# Altium integrated library Wurth_Elektronik_Passive_rev16a.IntLib: 1143 symbols (part 12 of 28)
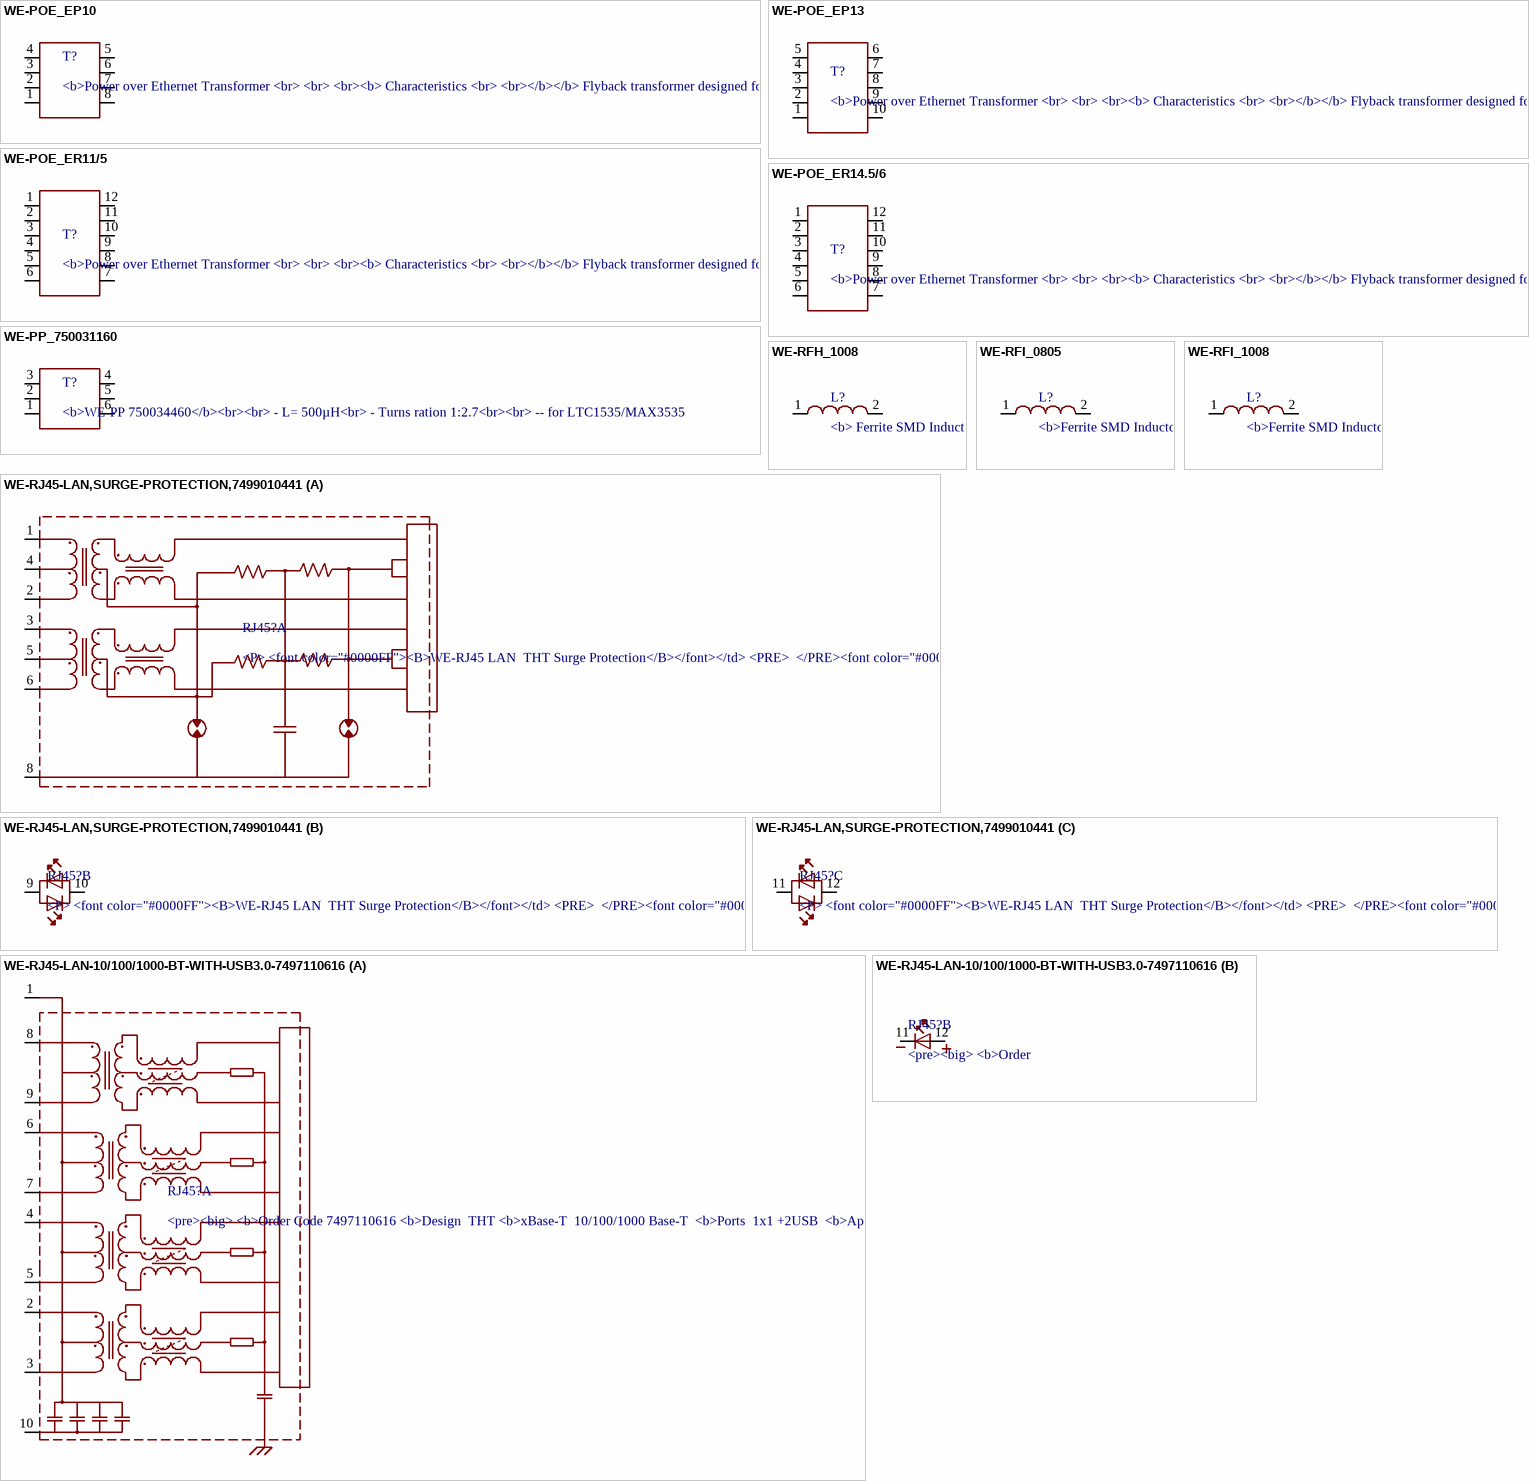
[diagram p69: symbols WE-POE_EP10 to WE-RJ45-LAN-10/100/1000-BT-WITH-USB3.0-7497110616]

## WE-RFH_1008
designator L?, comment <b> Ferrite SMD Inductor / <br> / <br> / <br><b> Characteristics / <br> / <br></b></b> High thermal stability / <br> / <br> Operating temperature: –40 ºC to +85 ºC / <br> / <br> High inductances / <br> / <br> High currents / <br> / <br> / <br><b> Applications / <br> / <br></b> Developed especially for RF applications / <br> / <br> Perfect for telecommunication applications / <br> / <br> / <br> / <br><a href="<br><a href="http://katalog.we-online.de/media/images/eisos/RfRFH_pf2.jpg" title="Enlarge picture"> / <img src="http://katalog.we-online.de/media/images/eisos/RfRFH_pf2.jpg" width="320"></a><p> / Details see: <a href="http://katalog.we-online.de/en/pbs/WE-RFH?">http://katalog.we-online.de/en/pbs/WE-RFH?</a><p> / Updated  by  Dan Xu 2014-07-08<br> / 2014 (C) Wurth Elektronik
footprint WE-RFH
pins: 1, 2

## WE-RFI_0805
designator L?, comment <b>Ferrite SMD Inductor / <br> / <br> / <br><b> Characteristics / <br> / <br></b></b> High thermal stability / <br> / <br> Operating temperature: –40 °C to +85 °C / <br> / <br> / <br><b> Applications / <br> / <br></b> Especially developed for RF applications / <br> / <br> RFID / <br> / <br> Low frequency radio applications (Keyless) / <br> / <br> / <br> / <br><a href="<br><a href="http://katalog.we-online.de/media/images/eisos/RfRFI_pf2.jpg" title="Enlarge picture"> / <img src="http://katalog.we-online.de/media/images/eisos/RfRFH_pf2.jpg" width="320"></a><p> / Details see: <a href="http://katalog.we-online.de/en/pbs/WE-RFI?">http://katalog.we-online.de/en/pbs/WE-RFI?</a><p> / Updated  by  Dan Xu 2014-07-08<br> / 2014 (C) Wurth Elektronik
footprint WE-RFI_0805
pins: 1, 2

## WE-RFI_1008
designator L?, comment <b>Ferrite SMD Inductor / <br> / <br> / <br><b> Characteristics / <br> / <br></b></b> High thermal stability / <br> / <br> Operating temperature: –40 °C to +85 °C / <br> / <br> / <br><b> Applications / <br> / <br></b> Especially developed for RF applications / <br> / <br> RFID / <br> / <br> Low frequency radio applications (Keyless) / <br> / <br> / <br> / <br><a href="<br><a href="http://katalog.we-online.de/media/images/eisos/RfRFI_pf2.jpg" title="Enlarge picture"> / <img src="http://katalog.we-online.de/media/images/eisos/RfRFH_pf2.jpg" width="320"></a><p> / Details see: <a href="http://katalog.we-online.de/en/pbs/WE-RFI?">http://katalog.we-online.de/en/pbs/WE-RFI?</a><p> / Updated  by  Dan Xu 2014-07-08<br> / 2014 (C) Wurth Elektronik
footprint WE-RFI_1008
pins: 1, 2

## WE-RJ45-LAN,SURGE-PROTECTION,7499010441
designator RJ45?, comment <P> <font color="#0000FF"><B>WE-RJ45 LAN / THT Surge Protection</B></font></td> / <PRE> / </PRE><font color="#0000FF"><B>Characteristics:</B></font></td> / <PRE> / With two integrated gas discharge tubes / High surge withstand voltage / Small capacitance of surge device / <PRE> / <font color="#0000FF"><B>Application:</B></font></td> / <PRE> / Telecom devices / Bridges, hubs, router, power line adapter / LAN networks in rough environments / </PRE> / <br><a href="<br><a href="http://katalog.we-online.de/media/images/eisos/UtLAN_RJ45_pf2.jpg" title="Enlarge picture"> / <img src="http://katalog.we-online.de/media/images/eisos/UtLAN_RJ45_pf2.jpg" width="320"></a><p> / Details see: <a href="http://katalog.we-online.de/en/pbs/WE-LAN_RJ45/7499010441?">http://katalog.we-online.de/en/pbs/WE-LAN_RJ45/7499010441?</a><p> / Updated  by  Dan Xu 2014-07-08<br> / 2014 (C) Würth Elektronik
footprint 7499010441
part A pins: 1 TD+, 2 TD-, 3 RD+, 4 CTD, 5 CRD, 6 RD-, 8 SHIELD
part B pins: 9 AK1, 10 AK2
part C pins: 11 AK1, 12 AK2

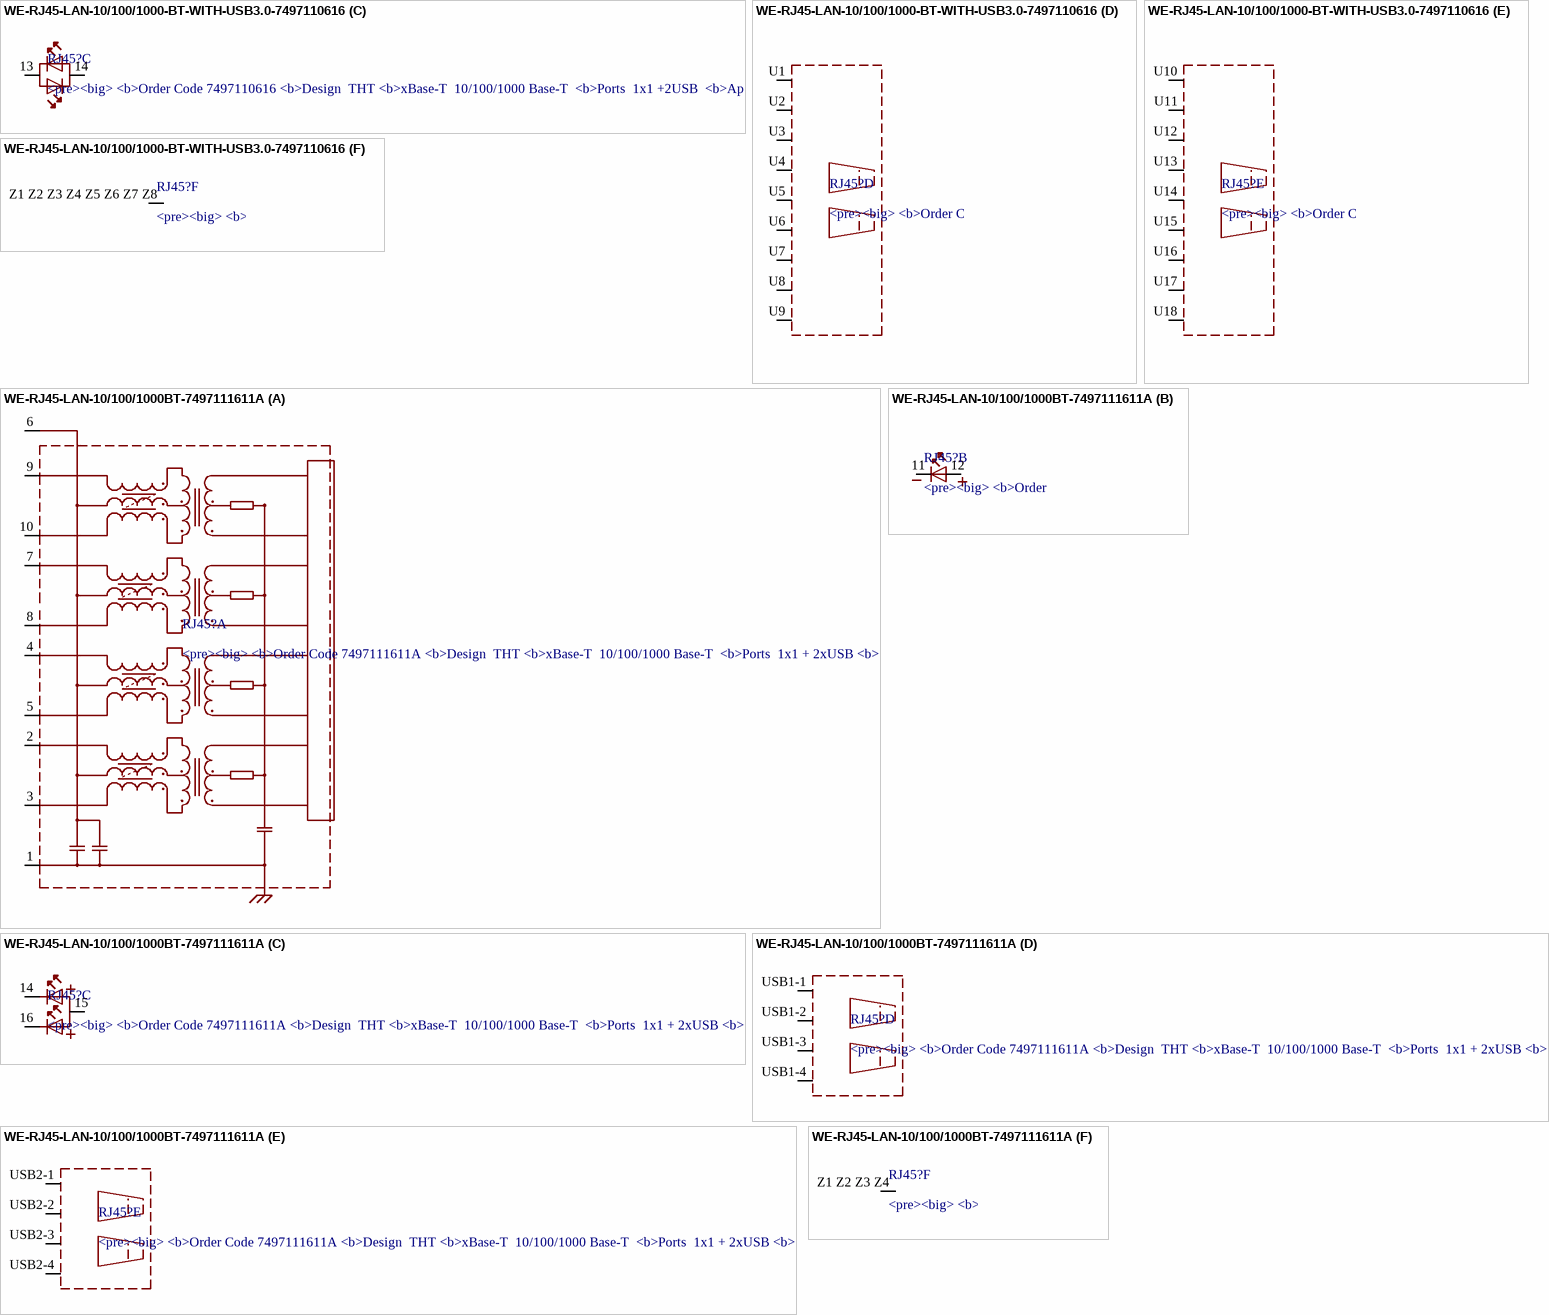
[diagram p27: symbols WE-RJ45-LAN-10/100/1000-BT-WITH-USB3.0-7497110616 to WE-RJ45-LAN-10/100/1000BT-7497111611A]

## WE-RJ45-LAN-10/100/1000-BT-WITH-USB3.0-7497110616
designator RJ45?, comment <pre><big> / <b>Order Code	7497110616 / <b>Design		THT / <b>xBase-T		10/100/1000 Base-T / <b>Ports		1x1 +2USB / <b>Application	Standard USB3.0 / <b>Tab Position	UP / <b>LED (Left-Right)	YELLOW-GREEN/OANGE / <b>EMI Fingers	NO / </b><br><a href="<br><a href="http://katalog.we-online.de/media/images/eisos/UtLAN_RJ45_pf2.jpg" title="Enlarge picture"> / <img src="http://katalog.we-online.de/media/images/eisos/UtLAN_RJ45_pf2.jpg" width="320"></a><p> / Details see: <a href="http://katalog.we-online.de/en/pbs/WE-LAN_RJ45/7497110616?">http://katalog.we-online.de/en/pbs/WE-LAN_RJ45/7497110616?</a><p> / </b> / </b>Updated  by  Dan Xu 2014-07-10<br> / </b>2014 (C) Würth Elektronik
MANUFACTURER: Würth Elektronik eiSos GmbH; CREATED-BY: Christin Zierenner; COMPANY-URL: http://www.we-online.de; CREATED-DATE: AUG 2012; DATASHEET-URL: http://katalog.we-online.de/kataloge/eisos/media/pdf/7497110616.pdf
footprint 7497110616
part A pins: 1, 2, 3, 4, 5, 6, 7, 8, 9, 10 (power)
part B pins: 11 K, 12 A
part C pins: 13 AK1, 14 AK2
part D pins: U1 VCC (power), U2 D-, U3 D+, U4 GND (power), U5 RX-, U6 RX+, U7 GND_SIG (power), U8 TX-, U9 TX+
part E pins: U10 VCC (power), U11 D-, U12 D+, U13 GND (power), U14 RX-, U15 RX+, U16 GND_SIG (power), U17 TX-, U18 TX+
part F pins: Z1 Z2 Z3 Z4 Z5 Z6 Z7 Z8 P$1 (power)

## WE-RJ45-LAN-10/100/1000BT-7497111611A
designator RJ45?, comment <pre><big> / <b>Order Code	7497111611A / <b>Design		THT / <b>xBase-T		10/100/1000 Base-T / <b>Ports		1x1 + 2xUSB / <b>Application	Standard USB2.0 / <b>Tab Position	UP / <b>LED (Left-Right)	GREEN/ORANGE-YELLOW / <b>EMI Fingers	YES</b> / </b><br><a href="<br><a href="http://katalog.we-online.de/media/images/eisos/UtLAN_RJ45_pf2.jpg" title="Enlarge picture"> / <img src="http://katalog.we-online.de/media/images/eisos/UtLAN_RJ45_pf2.jpg" width="320"></a><p> / Details see: <a href="http://katalog.we-online.de/en/pbs/WE-LAN_RJ45/7497111611A?">http://katalog.we-online.de/en/pbs/WE-LAN_RJ45/7497111611A?</a><p> / </b> / </b>Updated  by  Dan Xu 2014-07-10<br> / </b>2014 (C) Würth Elektronik
MANUFACTURER: Würth Elektronik eiSos GmbH; CREATED-BY: Christin Zierenner; COMPANY-URL: http://www.we-online.de; CREATED-DATE: AUG 2012; DATASHEET-URL: http://katalog.we-online.de/kataloge/eisos/media/pdf/7497111611A.pdf
footprint 7497111611A
part A pins: 1 (power), 2, 3, 4, 5, 6, 7, 8, 9, 10
part B pins: 11 K, 12 A
part C pins: 14 K1, 15 A1, 16 K2
part D pins: USB1-1 VCC (power), USB1-2 D-, USB1-3 D+, USB1-4 GND (power)
part E pins: USB2-1 VCC (power), USB2-2 D-, USB2-3 D+, USB2-4 GND (power)
part F pins: Z1 Z2 Z3 Z4 P$1 (power)

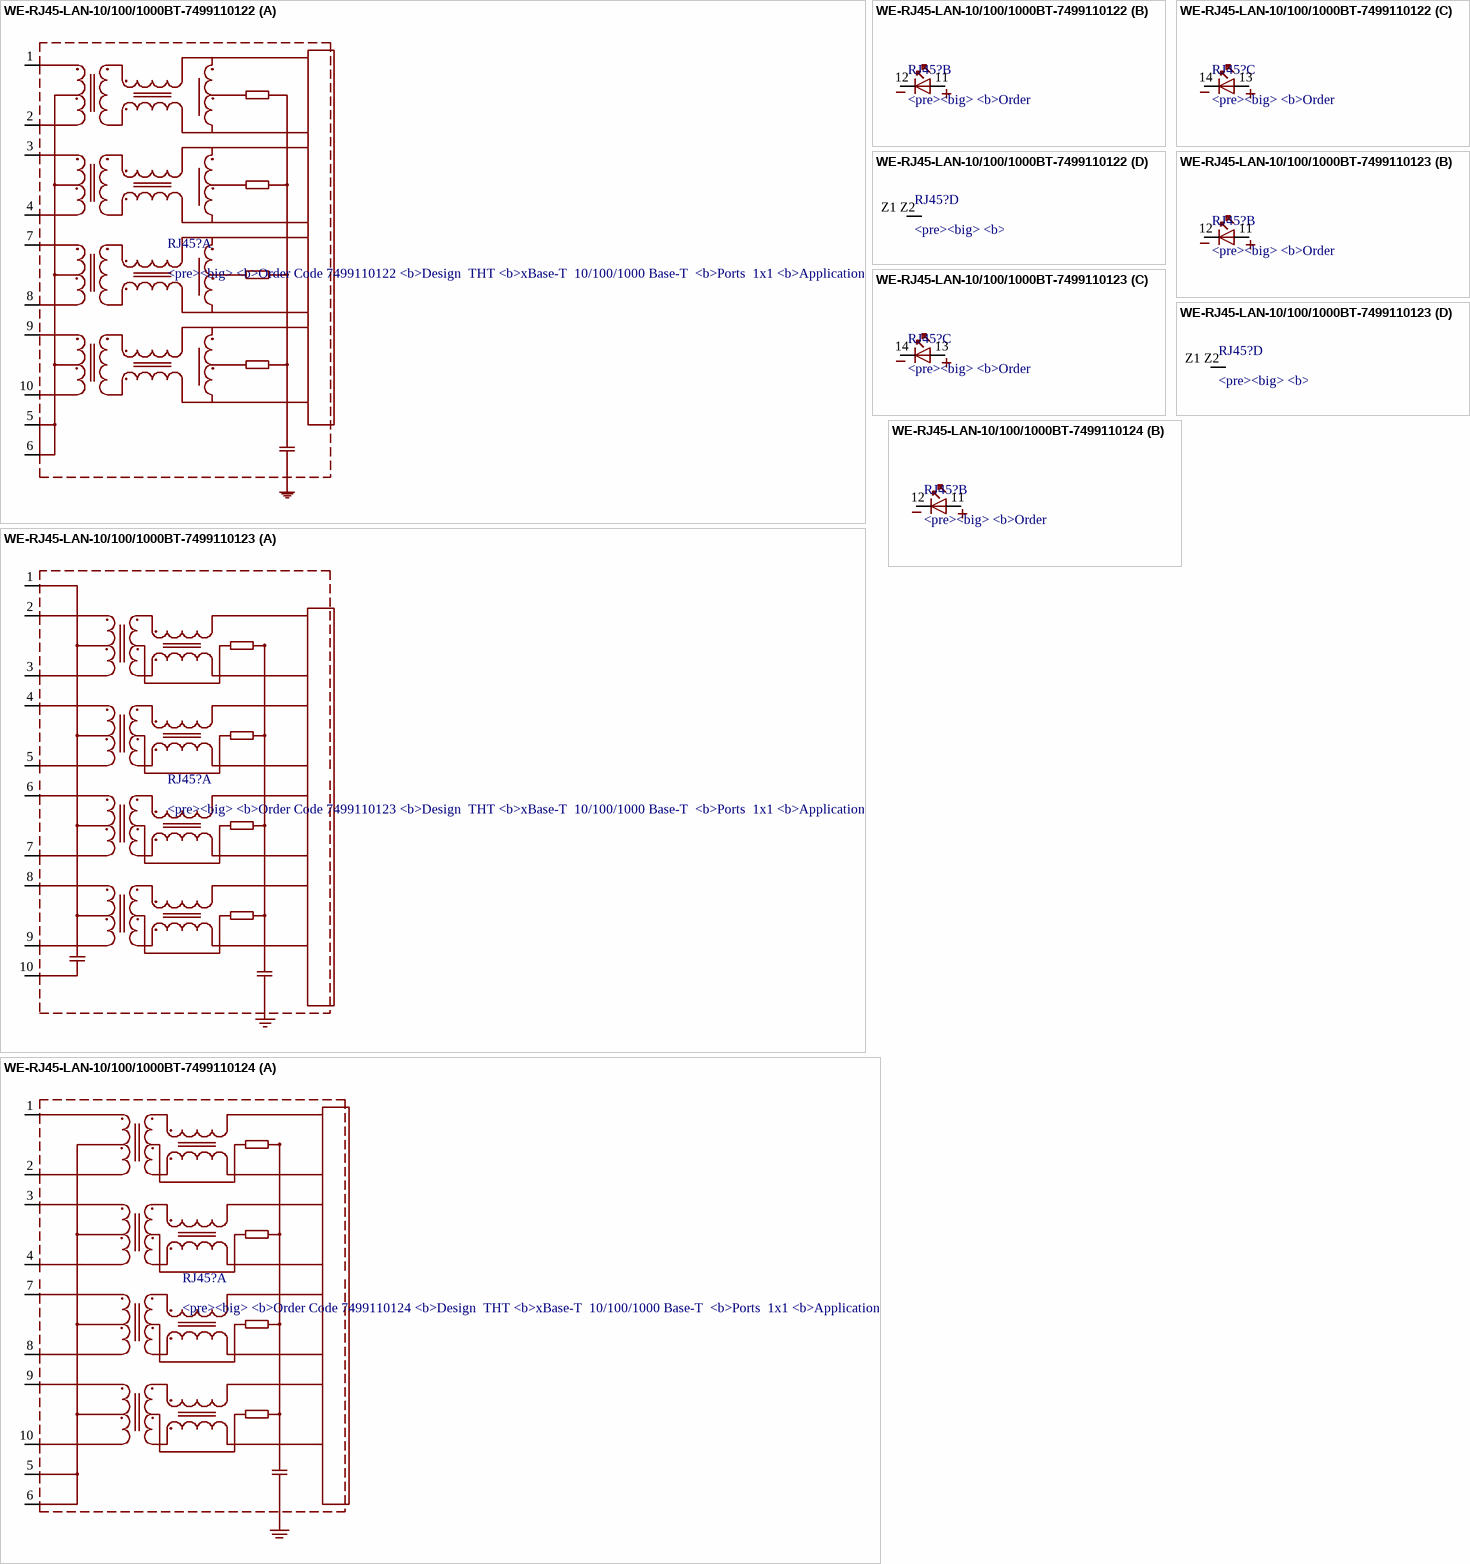
[diagram p28: symbols WE-RJ45-LAN-10/100/1000BT-7499110122 to WE-RJ45-LAN-10/100/1000BT-7499110124]

## WE-RJ45-LAN-10/100/1000BT-7499110122
designator RJ45?, comment <pre><big> / <b>Order Code	7499110122 / <b>Design		THT / <b>xBase-T		10/100/1000 Base-T / <b>Ports		1x1 / <b>Application	Standard / <b>Tab Position	Down / <b>LED (Left-Right)	YELLOW-GREEN / <b>EMI Fingers	No / </b><br><a href="<br><a href="http://katalog.we-online.de/media/images/eisos/UtLAN_RJ45_pf2.jpg" title="Enlarge picture"> / <img src="http://katalog.we-online.de/media/images/eisos/UtLAN_RJ45_pf2.jpg" width="320"></a><p> / Details see: <a href="http://katalog.we-online.de/en/pbs/WE-LAN_RJ45/7499110122?">http://katalog.we-online.de/en/pbs/WE-LAN_RJ45/7499110122?</a><p> / </b> / </b>Updated  by  Dan Xu 2014-07-10<br> / </b>2014 (C) Würth Elektronik
MANUFACTURER: Würth Elektronik eiSos GmbH; CREATED-BY: Christin Zierenner; COMPANY-URL: http://www.we-online.de; CREATED-DATE: AUG 2012; DATASHEET-URL: http://katalog.we-online.de/kataloge/eisos/media/pdf/7499110122.pdf
footprint 7499110122
part A pins: 1, 2, 3, 4, 5, 6, 7, 8, 9, 10
part B pins: 11 A, 12 K
part C pins: 13 A, 14 K
part D pins: Z1 Z2 P$1 (power)

## WE-RJ45-LAN-10/100/1000BT-7499110123
designator RJ45?, comment <pre><big> / <b>Order Code	7499110123 / <b>Design		THT / <b>xBase-T		10/100/1000 Base-T / <b>Ports		1x1 / <b>Application	Standard / <b>Tab Position	VERTICAL / <b>LED (Left-Right)	YELLOW-GREEN / <b>EMI Fingers	No / </b><br><a href="<br><a href="http://katalog.we-online.de/media/images/eisos/UtLAN_RJ45_pf2.jpg" title="Enlarge picture"> / <img src="http://katalog.we-online.de/media/images/eisos/UtLAN_RJ45_pf2.jpg" width="320"></a><p> / Details see: <a href="http://katalog.we-online.de/en/pbs/WE-LAN_RJ45/7499110123?">http://katalog.we-online.de/en/pbs/WE-LAN_RJ45/7499110123?</a><p> / </b> / </b>Updated  by  Dan Xu 2014-07-10<br> / </b>2014 (C) Würth Elektronik
MANUFACTURER: Würth Elektronik eiSos GmbH; CREATED-BY: Christin Zierenner; COMPANY-URL: http://www.we-online.de; CREATED-DATE: AUG 2012; DATASHEET-URL: http://katalog.we-online.de/kataloge/eisos/media/pdf/7499110123.pdf
footprint 7499110123
part A pins: 1, 2, 3, 4, 5, 6, 7, 8, 9, 10
part B pins: 11 A, 12 K
part C pins: 13 A, 14 K
part D pins: Z1 Z2 P$1 (power)

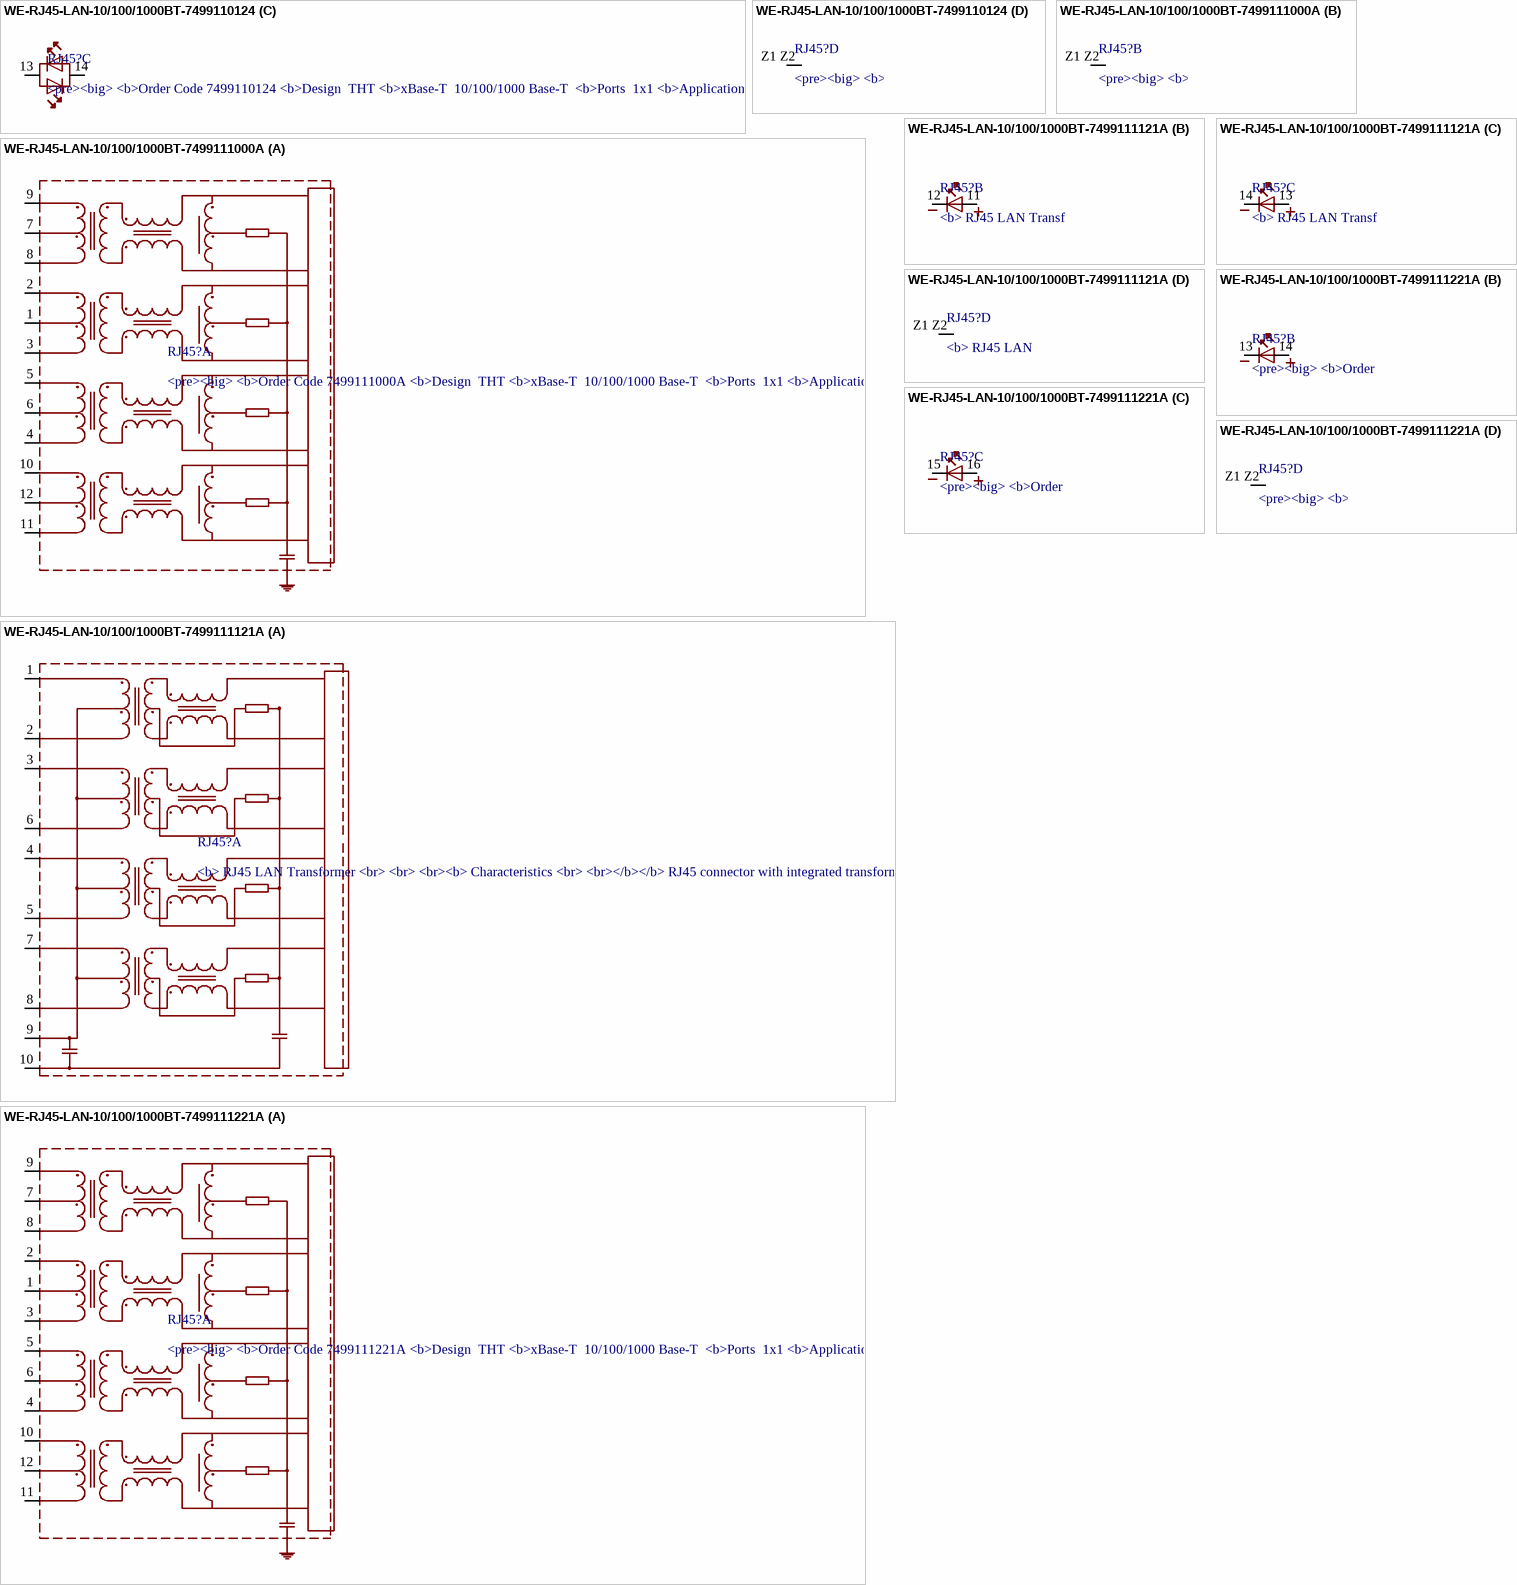
[diagram p29: symbols WE-RJ45-LAN-10/100/1000BT-7499110124 to WE-RJ45-LAN-10/100/1000BT-7499111221A]

## WE-RJ45-LAN-10/100/1000BT-7499110124
designator RJ45?, comment <pre><big> / <b>Order Code	7499110124 / <b>Design		THT / <b>xBase-T		10/100/1000 Base-T / <b>Ports		1x1 / <b>Application	Standard / <b>Tab Position	UP / <b>LED (Left-Right)	GREEN/YELLOW-GREEN / <b>EMI Fingers	No / </b><br><a href="<br><a href="http://katalog.we-online.de/media/images/eisos/UtLAN_RJ45_pf2.jpg" title="Enlarge picture"> / <img src="http://katalog.we-online.de/media/images/eisos/UtLAN_RJ45_pf2.jpg" width="320"></a><p> / Details see: <a href="http://katalog.we-online.de/en/pbs/WE-LAN_RJ45/7499110124?">http://katalog.we-online.de/en/pbs/WE-LAN_RJ45/7499110124?</a><p> / </b> / </b>Updated  by  Dan Xu 2014-07-10<br> / </b>2014 (C) Würth Elektronik
MANUFACTURER: Würth Elektronik eiSos GmbH; CREATED-BY: Christin Zierenner; COMPANY-URL: http://www.we-online.de; CREATED-DATE: AUG 2012; DATASHEET-URL: http://katalog.we-online.de/kataloge/eisos/media/pdf/7499110124.pdf
footprint 7499110124
part A pins: 1, 2, 3, 4, 5, 6, 7, 8, 9, 10
part B pins: 11 A, 12 K
part C pins: 13 AK1, 14 AK2
part D pins: Z1 Z2 P$1 (power)

## WE-RJ45-LAN-10/100/1000BT-7499111000A
designator RJ45?, comment <pre><big> / <b>Order Code	7499111000A / <b>Design		THT / <b>xBase-T		10/100/1000 Base-T / <b>Ports		1x1 / <b>Application	Standard / <b>Tab Position	UP / <b>LED (Left-Right)	NONE / <b>EMI Fingers	Yes / </b><br><a href="<br><a href="http://katalog.we-online.de/media/images/eisos/UtLAN_RJ45_pf2.jpg" title="Enlarge picture"> / <img src="http://katalog.we-online.de/media/images/eisos/UtLAN_RJ45_pf2.jpg" width="320"></a><p> / Details see: <a href="http://katalog.we-online.de/en/pbs/WE-LAN_RJ45/7499111000A?">http://katalog.we-online.de/en/pbs/WE-LAN_RJ45/7499111000A?</a><p> / </b> / </b>Updated  by  Dan Xu 2014-07-10<br> / </b>2014 (C) Würth Elektronik
MANUFACTURER: Würth Elektronik eiSos GmbH; CREATED-BY: Christin Zierenner; COMPANY-URL: http://www.we-online.de; CREATED-DATE: AUG 2012; DATASHEET-URL: http://katalog.we-online.de/kataloge/eisos/media/pdf/7499111000A.pdf
footprint 7499111000A
part A pins: 1, 2, 3, 4, 5, 6, 7, 8, 9, 10, 11, 12
part B pins: Z1 Z2 P$1 (power)

## WE-RJ45-LAN-10/100/1000BT-7499111121A
designator RJ45?, comment <b> RJ45 LAN Transformer / <br> / <br> / <br><b> Characteristics / <br> / <br></b></b> RJ45 connector with integrated transformer common mode choke / <br> / <br> Available in SMD, THT and THT with USB / <br> / <br> 350 μH min. OCL with 8 mA bias / <br> / <br> Complies with IEEE 802.3 / <br> / <br> Extended temperature range from –40 °C to +85 °C available / <br> / <br> PoE/PoE+ / <br> / <br> / <br><b> Applications / <br> / <br></b> XDSL Modems / <br> / <br> Embedded PC / <br> / <br> LAN network applications / <br> / <br> Hub, Router, Switches / <br> / <br> / <br> / <br><a href="<br><a href="http://katalog.we-online.de/media/images/eisos/UtLAN_RJ45_pf2.jpg" title="Enlarge picture"> / <img src="http://katalog.we-online.de/media/images/eisos/UtLAN_RJ45_pf2.jpg" width="320"></a><p> / Details see: <a href="http://katalog.we-online.de/en/pbs/WE-LAN_RJ45/7499010441?">http://katalog.we-online.de/en/pbs/WE-LAN_RJ45/7499010441?</a><p> / Updated  by  Dan Xu 2014-07-08<br> / 2014 (C) Wurth Elektronik
MANUFACTURER: Würth Elektronik eiSos GmbH; CREATED-BY: Christin Zierenner; COMPANY-URL: http://www.we-online.de; CREATED-DATE: AUG 2012; DATASHEET-URL: http://katalog.we-online.de/kataloge/eisos/media/pdf/7499111121A.pdf
footprint 7499111121A
part A pins: 1, 2, 3, 4, 5, 6, 7, 8, 9 (power), 10 (power)
part B pins: 11 A, 12 K
part C pins: 13 A, 14 K
part D pins: Z1 Z2 P$1 (power)

## WE-RJ45-LAN-10/100/1000BT-7499111221A
designator RJ45?, comment <pre><big> / <b>Order Code	7499111221A / <b>Design		THT / <b>xBase-T		10/100/1000 Base-T / <b>Ports		1x1 / <b>Application	Standard / <b>Tab Position	UP / <b>LED (Left-Right)	GREEN-GREEN / <b>EMI Fingers	Yes / </b><br><a href="<br><a href="http://katalog.we-online.de/media/images/eisos/UtLAN_RJ45_pf2.jpg" title="Enlarge picture"> / <img src="http://katalog.we-online.de/media/images/eisos/UtLAN_RJ45_pf2.jpg" width="320"></a><p> / Details see: <a href="http://katalog.we-online.de/en/pbs/WE-LAN_RJ45/7499111221A?">http://katalog.we-online.de/en/pbs/WE-LAN_RJ45/7499111221A?</a><p> / </b> / </b>Updated  by  Dan Xu 2014-07-10<br> / </b>2014 (C) Würth Elektronik
MANUFACTURER: Würth Elektronik eiSos GmbH; CREATED-BY: Christin Zierenner; COMPANY-URL: http://www.we-online.de; CREATED-DATE: AUG 2012; DATASHEET-URL: http://katalog.we-online.de/kataloge/eisos/media/pdf/7499111221A.pdf
footprint 7499111221A
part A pins: 1, 2, 3, 4, 5, 6, 7, 8, 9, 10, 11, 12
part B pins: 13 K, 14 A
part C pins: 15 K, 16 A
part D pins: Z1 Z2 P$1 (power)

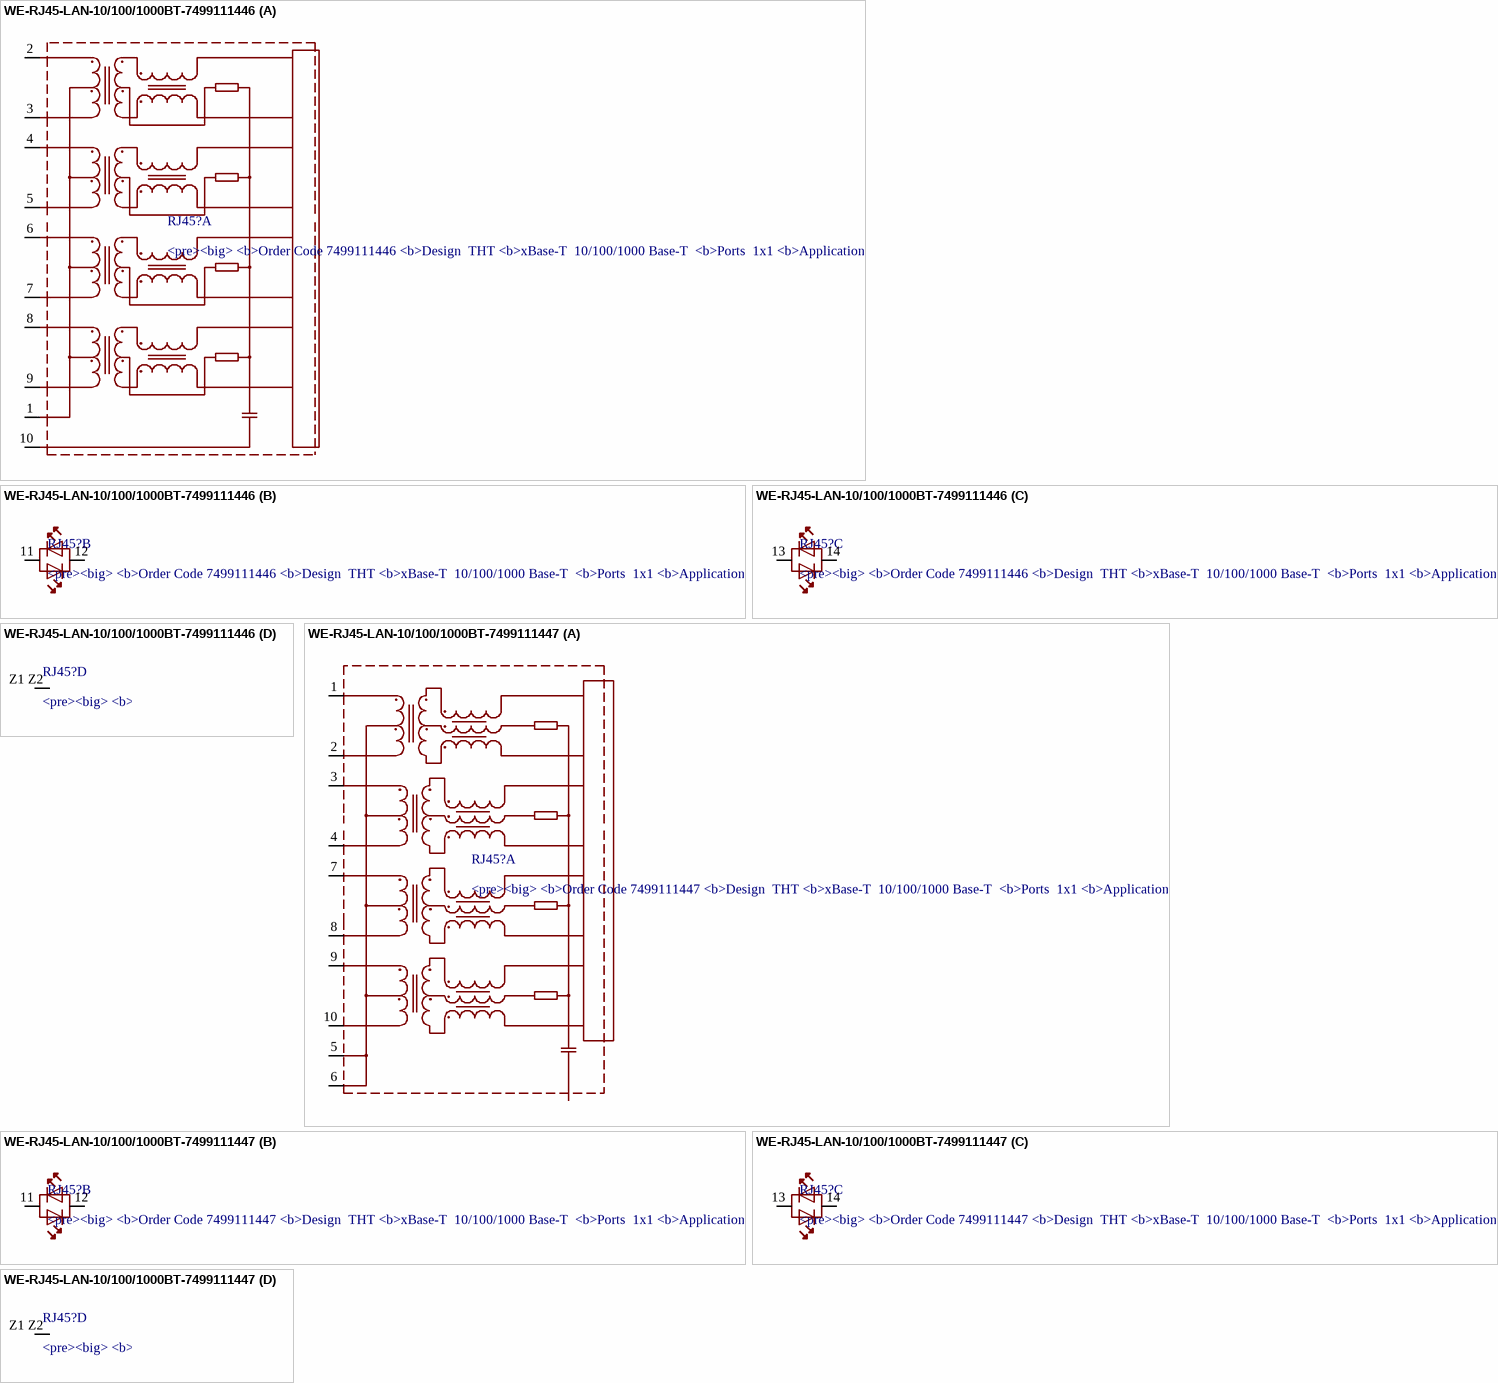
[diagram p30: symbols WE-RJ45-LAN-10/100/1000BT-7499111446 to WE-RJ45-LAN-10/100/1000BT-7499111447]

## WE-RJ45-LAN-10/100/1000BT-7499111446
designator RJ45?, comment <pre><big> / <b>Order Code	7499111446 / <b>Design		THT / <b>xBase-T		10/100/1000 Base-T / <b>Ports		1x1 / <b>Application	Standard / <b>Tab Position	DOWN / <b>LED (Left-Right)	GREEN/YELLOW-GREEN/YELLOW / <b>EMI Fingers	yes / </b><br><a href="<br><a href="http://katalog.we-online.de/media/images/eisos/UtLAN_RJ45_pf2.jpg" title="Enlarge picture"> / <img src="http://katalog.we-online.de/media/images/eisos/UtLAN_RJ45_pf2.jpg" width="320"></a><p> / Details see: <a href="http://katalog.we-online.de/en/pbs/WE-LAN_RJ45/7499111446?">http://katalog.we-online.de/en/pbs/WE-LAN_RJ45/7499111446?</a><p> / </b> / </b>Updated  by  Dan Xu 2014-07-10<br> / </b>2014 (C) Würth Elektronik
MANUFACTURER: Würth Elektronik eiSos GmbH; CREATED-BY: Christin Zierenner; COMPANY-URL: http://www.we-online.de; CREATED-DATE: AUG 2012; DATASHEET-URL: http://katalog.we-online.de/kataloge/eisos/media/pdf/7499111446.pdf
footprint 7499111446
part A pins: 1, 2, 3, 4, 5, 6, 7, 8, 9, 10 (power)
part B pins: 11 AK1, 12 AK2
part C pins: 13 AK1, 14 AK2
part D pins: Z1 Z2 P$1 (power)

## WE-RJ45-LAN-10/100/1000BT-7499111447
designator RJ45?, comment <pre><big> / <b>Order Code	7499111447 / <b>Design		THT / <b>xBase-T		10/100/1000 Base-T / <b>Ports		1x1 / <b>Application	Standard / <b>Tab Position	Up / <b>LED (Left-Right)	GREEN/YELLOW-GREEN/YELLOW / <b>EMI Fingers	yes / </b><br><a href="<br><a href="http://katalog.we-online.de/media/images/eisos/UtLAN_RJ45_pf2.jpg" title="Enlarge picture"> / <img src="http://katalog.we-online.de/media/images/eisos/UtLAN_RJ45_pf2.jpg" width="320"></a><p> / Details see: <a href="http://katalog.we-online.de/en/pbs/WE-LAN_RJ45/7499111447?">http://katalog.we-online.de/en/pbs/WE-LAN_RJ45/7499111447?</a><p> / </b> / </b>Updated  by  Dan Xu 2014-07-10<br> / </b>2014 (C) Würth Elektronik
MANUFACTURER: Würth Elektronik eiSos GmbH; CREATED-BY: Christin Zierenner; COMPANY-URL: http://www.we-online.de; CREATED-DATE: AUG 2012; DATASHEET-URL: http://katalog.we-online.de/kataloge/eisos/media/pdf/7499111447.pdf
footprint 7499111447
part A pins: 1, 2, 3, 4, 5, 6, 7, 8, 9, 10
part B pins: 11 AK1, 12 AK2
part C pins: 13 AK1, 14 AK2
part D pins: Z1 Z2 P$1 (power)

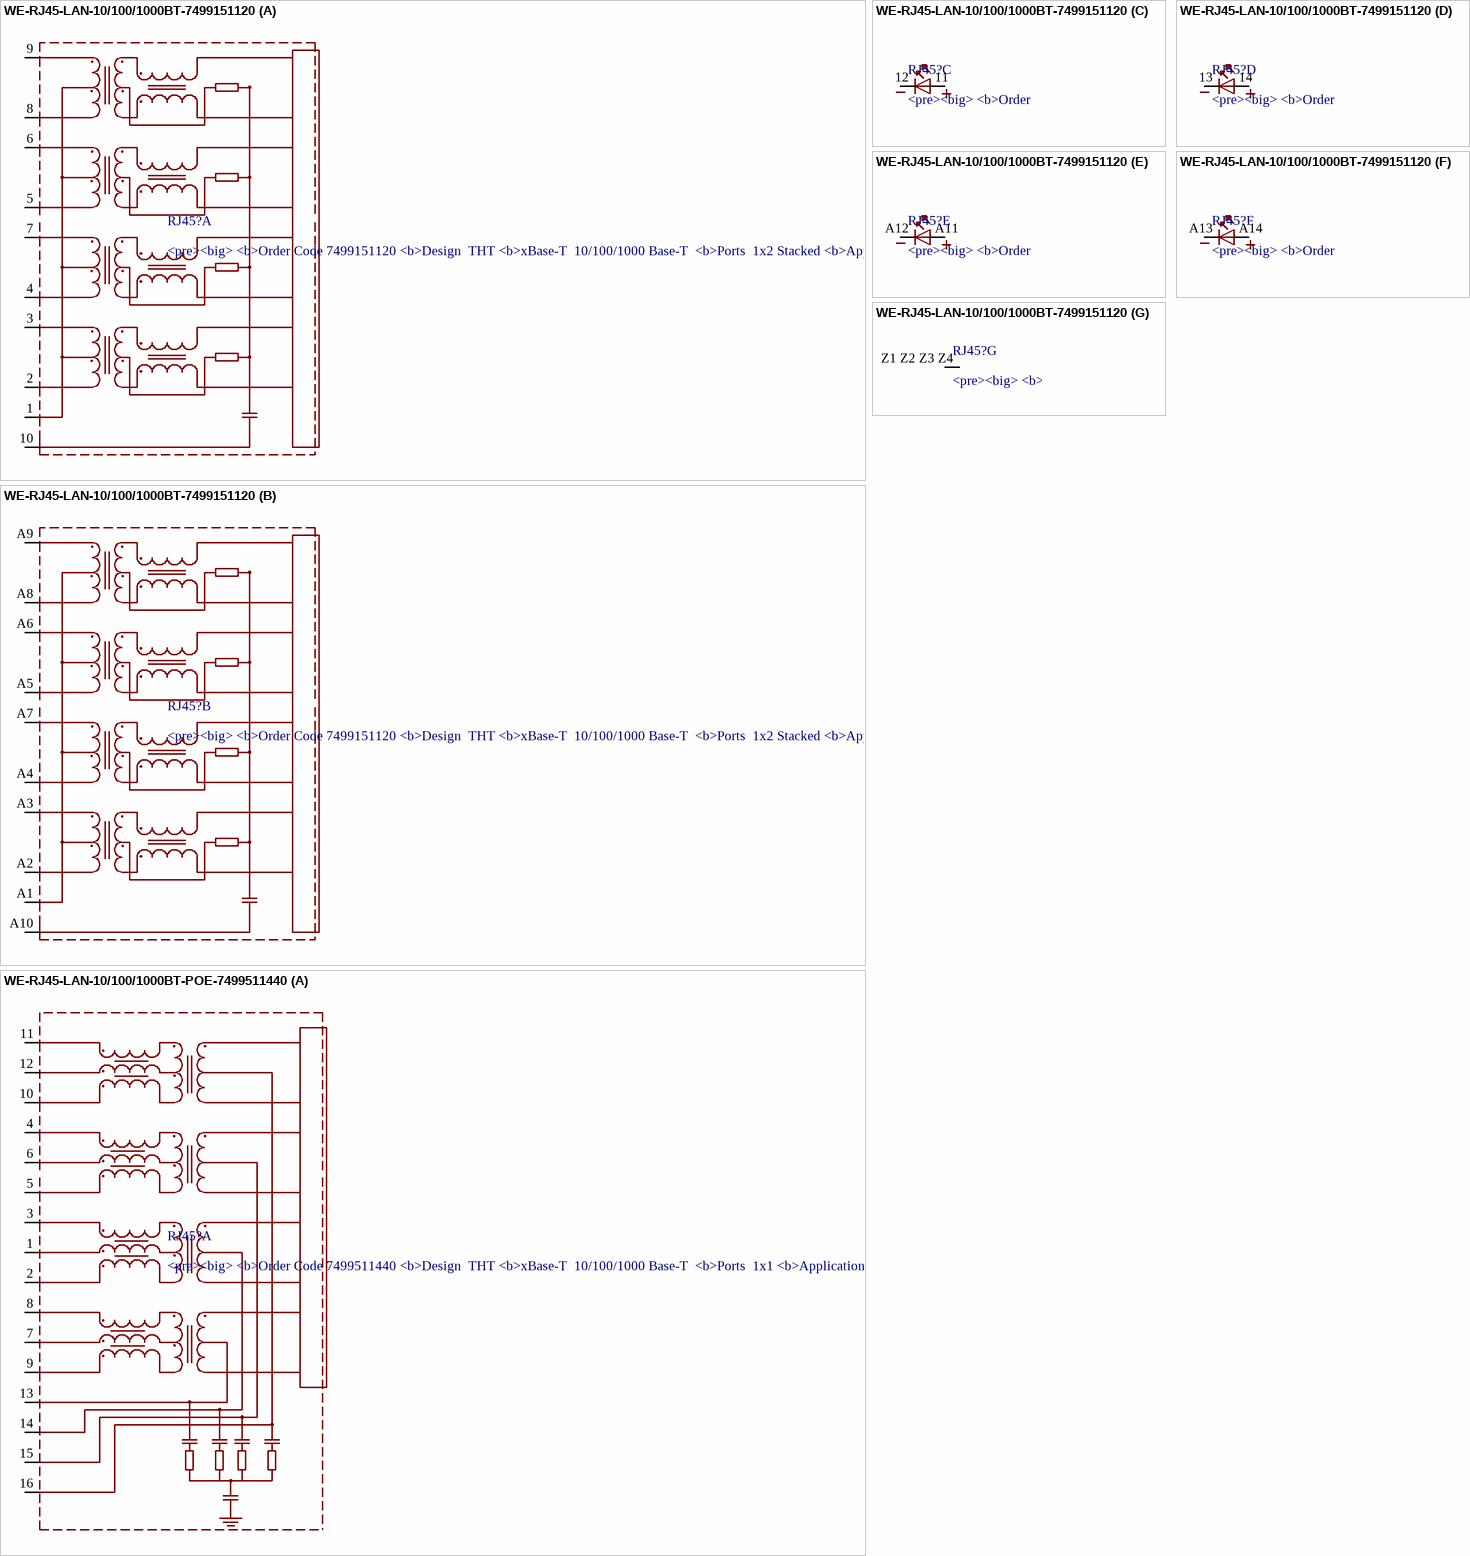
[diagram p31: symbols WE-RJ45-LAN-10/100/1000BT-7499151120 to WE-RJ45-LAN-10/100/1000BT-POE-7499511440]

## WE-RJ45-LAN-10/100/1000BT-7499151120
designator RJ45?, comment <pre><big> / <b>Order Code	7499151120 / <b>Design		THT / <b>xBase-T		10/100/1000 Base-T / <b>Ports		1x2 Stacked / <b>Application	Standard / <b>Tab Position	UP & DOWN / <b>LED (Left-Right)	YELLOW-GREEN / <b>EMI Fingers	Yes / </b><br><a href="<br><a href="http://katalog.we-online.de/media/images/eisos/UtLAN_RJ45_pf2.jpg" title="Enlarge picture"> / <img src="http://katalog.we-online.de/media/images/eisos/UtLAN_RJ45_pf2.jpg" width="320"></a><p> / Details see: <a href="http://katalog.we-online.de/en/pbs/WE-LAN_RJ45/7499151120?">http://katalog.we-online.de/en/pbs/WE-LAN_RJ45/7499151120?</a><p> / </b> / </b>Updated  by  Dan Xu 2014-07-10<br> / </b>2014 (C) Würth Elektronik
MANUFACTURER: Würth Elektronik eiSos GmbH; CREATED-BY: Christin Zierenner; COMPANY-URL: http://www.we-online.de; CREATED-DATE: AUG 2012; DATASHEET-URL: http://katalog.we-online.de/kataloge/eisos/media/pdf/7499151120.pdf
footprint 7499151120
part A pins: 1, 2, 3, 4, 5, 6, 7, 8, 9, 10 SHIELD (power)
part B pins: A1 1, A2 2, A3 3, A4 4, A5 5, A6 6, A7 7, A8 8, A9 9, A10 SHIELD (power)
part C pins: 11 A, 12 K
part D pins: 13 K, 14 A
part E pins: A11 A, A12 K
part F pins: A13 K, A14 A
part G pins: Z1 Z2 Z3 Z4 P$1 (power)

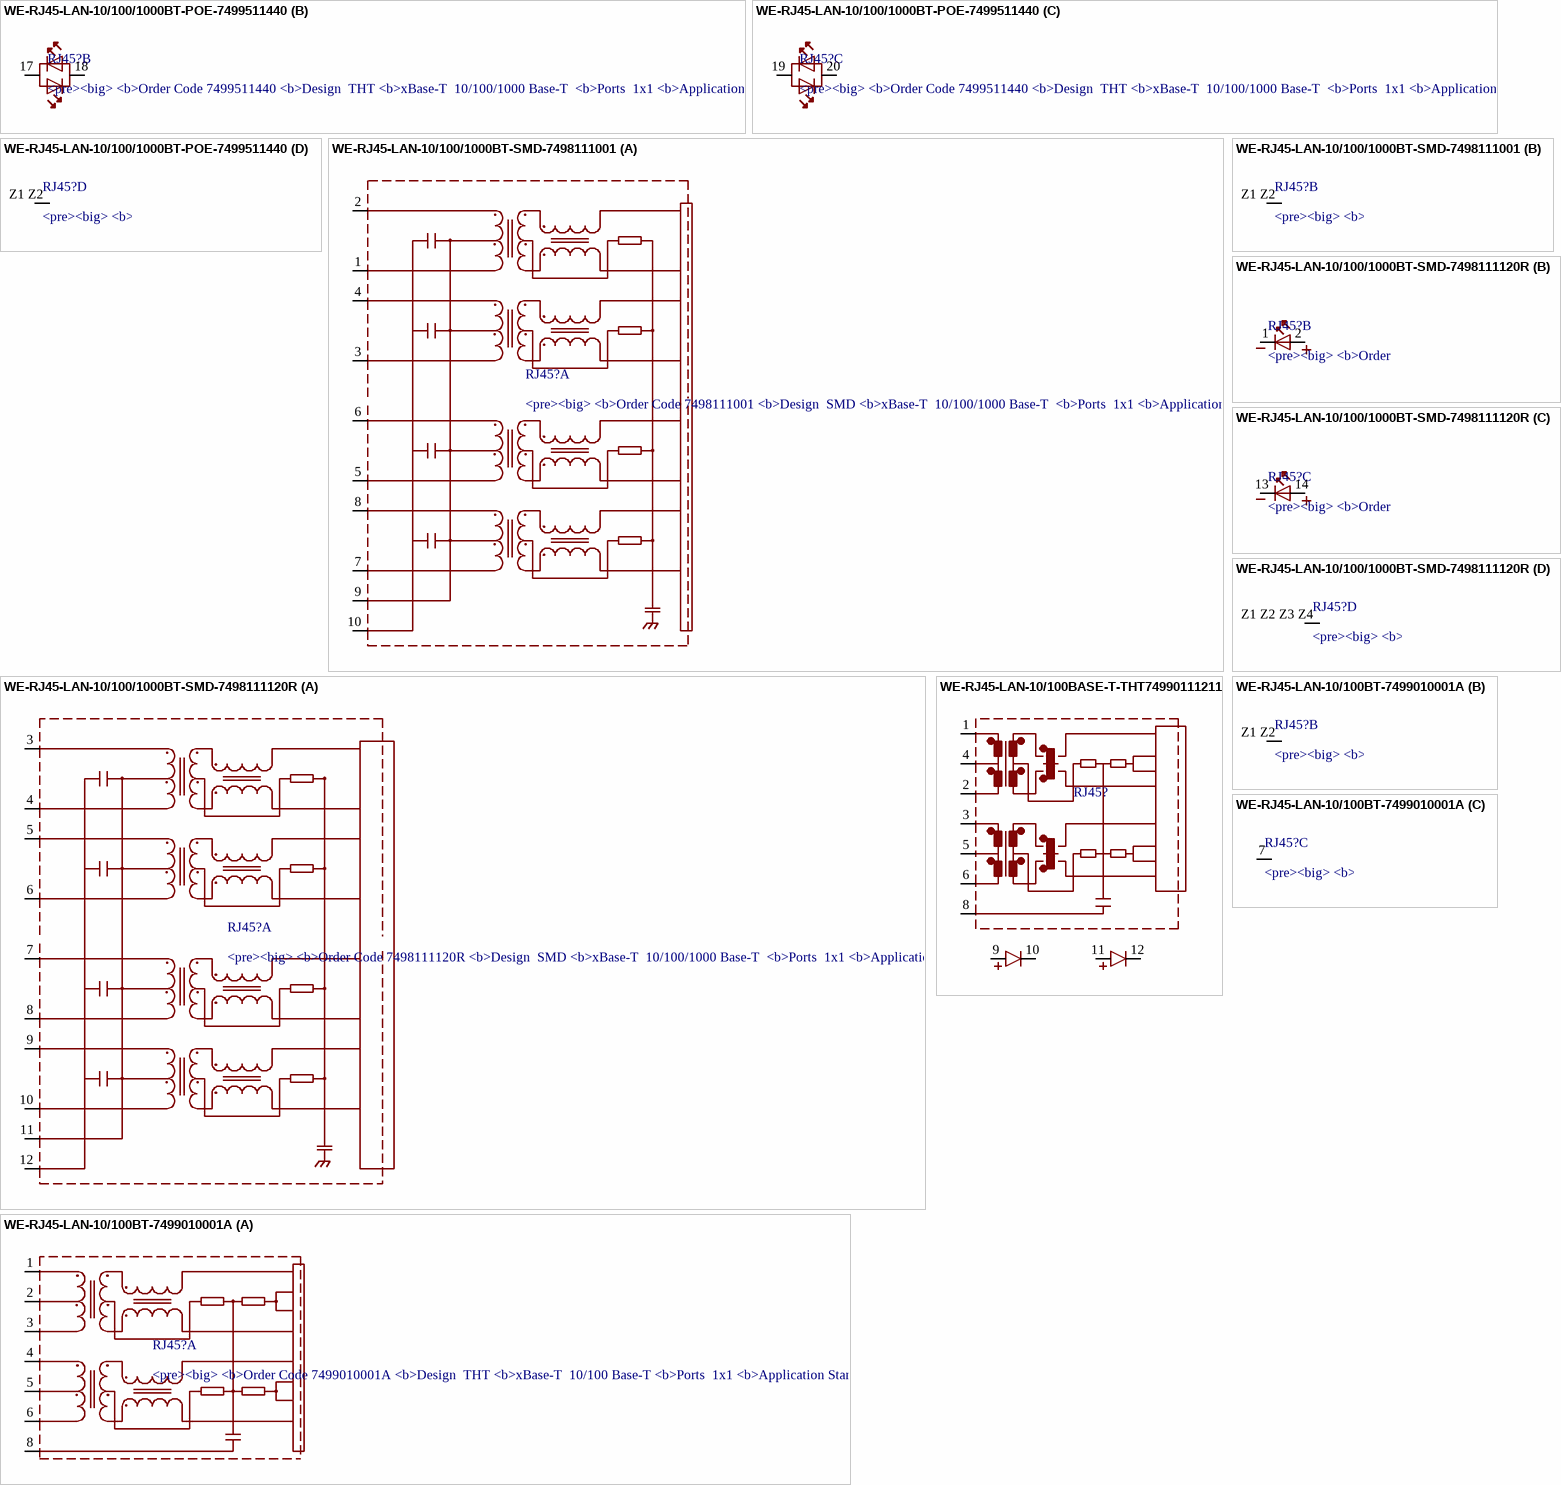
[diagram p32: symbols WE-RJ45-LAN-10/100/1000BT-POE-7499511440 to WE-RJ45-LAN-10/100BT-7499010001A]

## WE-RJ45-LAN-10/100/1000BT-POE-7499511440
designator RJ45?, comment <pre><big> / <b>Order Code	7499511440 / <b>Design		THT / <b>xBase-T		10/100/1000 Base-T / <b>Ports		1x1 / <b>Application	PoE / <b>Tab Position	UP / <b>LED (Left-Right)	GREEN/YELLOW-GREEN/YELLOW / <b>EMI Fingers	Yes / </b><br><a href="<br><a href="http://katalog.we-online.de/media/images/eisos/UtLAN_RJ45_pf2.jpg" title="Enlarge picture"> / <img src="http://katalog.we-online.de/media/images/eisos/UtLAN_RJ45_pf2.jpg" width="320"></a><p> / Details see: <a href="http://katalog.we-online.de/en/pbs/WE-LAN_RJ45/7499511440?">http://katalog.we-online.de/en/pbs/WE-LAN_RJ45/7499511440?</a><p> / </b> / </b>Updated  by  Dan Xu 2014-07-10<br> / </b>2014 (C) Würth Elektronik
MANUFACTURER: Würth Elektronik eiSos GmbH; CREATED-BY: Christin Zierenner; COMPANY-URL: http://www.we-online.de; CREATED-DATE: AUG 2012; DATASHEET-URL: http://katalog.we-online.de/kataloge/eisos/media/pdf/7499511440.pdf
footprint 7499511440
part A pins: 1, 2, 3, 4, 5, 6, 7, 8, 9, 10, 11, 12, 13 VC1+1 (power), 14 VC1-1 (power), 15 VC2+1 (power), 16 VC2-1 (power)
part B pins: 17 AK1, 18 AK2
part C pins: 19 AK1, 20 AK2
part D pins: Z1 Z2 P$1 (power)

## WE-RJ45-LAN-10/100/1000BT-SMD-7498111001
designator RJ45?, comment <pre><big> / <b>Order Code	7498111001 / <b>Design		SMD / <b>xBase-T		10/100/1000 Base-T / <b>Ports		1x1 / <b>Application	Standard / <b>Tab Position	UP / <b>LED (Left-Right)	NONE / <b>EMI Fingers	Yes / </b><br><a href="<br><a href="http://katalog.we-online.de/media/images/eisos/UtLAN_RJ45_pf2.jpg" title="Enlarge picture"> / <img src="http://katalog.we-online.de/media/images/eisos/UtLAN_RJ45_pf2.jpg" width="320"></a><p> / Details see: <a href="http://katalog.we-online.de/en/pbs/WE-LAN_RJ45/7498111001?">http://katalog.we-online.de/en/pbs/WE-LAN_RJ45/7498111001?</a><p> / </b> / </b>Updated  by  Dan Xu 2014-07-10<br> / </b>2014 (C) Würth Elektronik
MANUFACTURER: Würth Elektronik eiSos GmbH; CREATED-BY: Christin Zierenner; COMPANY-URL: http://www.we-online.de; CREATED-DATE: AUG 2012; DATASHEET-URL: http://katalog.we-online.de/kataloge/eisos/media/pdf/7498111001.pdf
footprint 7498111001
part A pins: 1, 2, 3, 4, 5, 6, 7, 8, 9 VCC (power), 10 GND (power)
part B pins: Z1 Z2 P$1 (power)

## WE-RJ45-LAN-10/100/1000BT-SMD-7498111120R
designator RJ45?, comment <pre><big> / <b>Order Code	7498111120R / <b>Design		SMD / <b>xBase-T		10/100/1000 Base-T / <b>Ports		1x1 / <b>Application	Standard / <b>Tab Position	UP / <b>LED (Left-Right)	YELLOW-GREEN / <b>EMI Fingers	Yes / </b><br><a href="<br><a href="http://katalog.we-online.de/media/images/eisos/UtLAN_RJ45_pf2.jpg" title="Enlarge picture"> / <img src="http://katalog.we-online.de/media/images/eisos/UtLAN_RJ45_pf2.jpg" width="320"></a><p> / Details see: <a href="http://katalog.we-online.de/en/pbs/WE-LAN_RJ45/7498111120R">http://katalog.we-online.de/en/pbs/WE-LAN_RJ45/7498111120R?</a><p> / </b> / </b>Updated  by  Dan Xu 2014-07-10<br> / </b>2014 (C) Würth Elektronik
MANUFACTURER: Würth Elektronik eiSos GmbH; CREATED-BY: Christin Zierenner; COMPANY-URL: http://www.we-online.de; CREATED-DATE: AUG 2012; DATASHEET-URL: http://katalog.we-online.de/kataloge/eisos/media/pdf/7498111120R.pdf
footprint 7498111120R
part A pins: 3 TRD0+, 4 TRD0-, 5 TRD1+, 6 TRD1-, 7 TRD2+, 8 TRD2-, 9 TRD3+, 10 TRD3-, 11 VCC (power), 12 GND (power)
part B pins: 1 K, 2 A
part C pins: 13 K, 14 A
part D pins: Z1 Z2 Z3 Z4 P$1 (power)

## WE-RJ45-LAN-10/100BASE-T-THT74990111211
designator RJ45?
footprint 74990111211
pins: 1, 2, 3, 4, 5, 6, 8, 9, 10, 11, 12

## WE-RJ45-LAN-10/100BT-7499010001A
designator RJ45?, comment <pre><big> / <b>Order Code	7499010001A / <b>Design		THT / <b>xBase-T		10/100 Base-T / <b>Ports		1x1 / <b>Application	Standard / <b>Tab Position	UP / <b>LED (Left-Right)	NONE / <b>EMI Fingers	No / </b><br><a href="<br><a href="http://katalog.we-online.de/media/images/eisos/UtLAN_RJ45_pf2.jpg" title="Enlarge picture"> / <img src="http://katalog.we-online.de/media/images/eisos/UtLAN_RJ45_pf2.jpg" width="320"></a><p> / Details see: <a href="http://katalog.we-online.de/en/pbs/WE-LAN_RJ45/7499010001A?">http://katalog.we-online.de/en/pbs/WE-LAN_RJ45/7499010001A?</a><p> / </b> / </b>Updated  by  Dan Xu 2014-07-10<br> / </b>2014 (C) Würth Elektronik
MANUFACTURER: Würth Elektronik eiSos GmbH; CREATED-BY: Christin Zierenner; COMPANY-URL: http://www.we-online.de; CREATED-DATE: AUG 2012; DATASHEET-URL: http://katalog.we-online.de/kataloge/eisos/media/pdf/7499010001A.pdf
footprint 74990-WITHOUT-LED
part A pins: 1 RD+, 2 RCT, 3 RD-, 4 TD+, 5 TCT, 6 TD-, 8 SH (power)
part B pins: Z1 Z2 P$1 (power)
part C pins: 7 NC

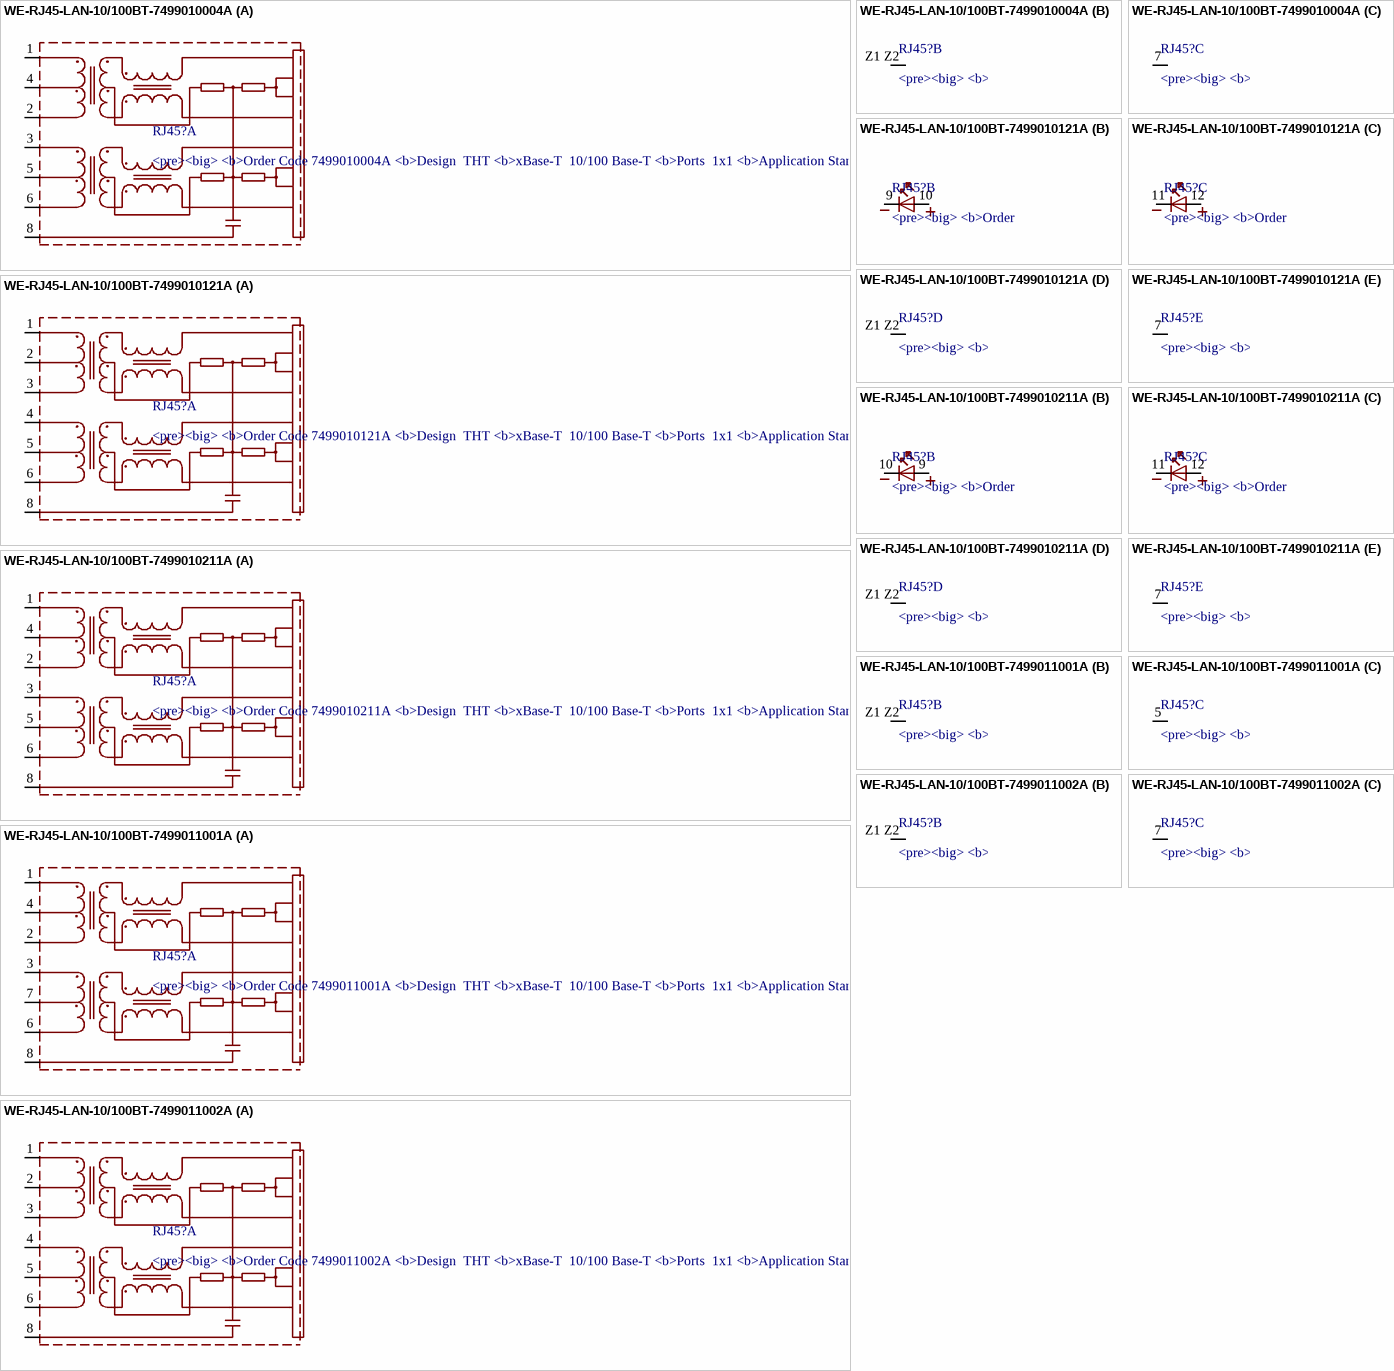
[diagram p33: symbols WE-RJ45-LAN-10/100BT-7499010004A to WE-RJ45-LAN-10/100BT-7499011002A]

## WE-RJ45-LAN-10/100BT-7499010004A
designator RJ45?, comment <pre><big> / <b>Order Code	7499010004A / <b>Design		THT / <b>xBase-T		10/100 Base-T / <b>Ports		1x1 / <b>Application	Standard / <b>Tab Position	Down / <b>LED (Left-Right)	NONE / <b>EMI Fingers	No / </b><br><a href="<br><a href="http://katalog.we-online.de/media/images/eisos/UtLAN_RJ45_pf2.jpg" title="Enlarge picture"> / <img src="http://katalog.we-online.de/media/images/eisos/UtLAN_RJ45_pf2.jpg" width="320"></a><p> / Details see: <a href="http://katalog.we-online.de/en/pbs/WE-LAN_RJ45/7499010004A?">http://katalog.we-online.de/en/pbs/WE-LAN_RJ45/7499010004A?</a><p> / </b> / </b>Updated  by  Dan Xu 2014-07-10<br> / </b>2014 (C) Würth Elektronik
MANUFACTURER: Würth Elektronik eiSos GmbH; CREATED-BY: Christin Zierenner; COMPANY-URL: http://www.we-online.de; CREATED-DATE: AUG 2012; DATASHEET-URL: http://katalog.we-online.de/kataloge/eisos/media/pdf/7499010004A.pdf
footprint 7499010004A
part A pins: 1 RD+, 2 RD-, 3 TD+, 4 RCT, 5 TCT, 6 TD-, 8 SH (power)
part B pins: Z1 Z2 P$1 (power)
part C pins: 7 NC

## WE-RJ45-LAN-10/100BT-7499010121A
designator RJ45?, comment <pre><big> / <b>Order Code	7499010121A / <b>Design		THT / <b>xBase-T		10/100 Base-T / <b>Ports		1x1 / <b>Application	Standard / <b>Tab Position	UP / <b>LED (Left-Right)	Yellow-Green / <b>EMI Fingers	No / </b><br><a href="<br><a href="http://katalog.we-online.de/media/images/eisos/UtLAN_RJ45_pf2.jpg" title="Enlarge picture"> / <img src="http://katalog.we-online.de/media/images/eisos/UtLAN_RJ45_pf2.jpg" width="320"></a><p> / Details see: <a href="http://katalog.we-online.de/en/pbs/WE-LAN_RJ45/7499010121A?">http://katalog.we-online.de/en/pbs/WE-LAN_RJ45/7499010001A?</a><p> / </b> / </b>Updated  by  Dan Xu 2014-07-10<br> / </b>2014 (C) Würth Elektronik
MANUFACTURER: Würth Elektronik eiSos GmbH; CREATED-BY: Christin Zierenner; COMPANY-URL: http://www.we-online.de; CREATED-DATE: AUG 2012; DATASHEET-URL: http://katalog.we-online.de/kataloge/eisos/media/pdf/7499010121A.pdf
footprint 74990-WITH-LED
part A pins: 1 TD+, 2 TCT, 3 TD-, 4 RD+, 5 RCT, 6 RD-, 8 SH (power)
part B pins: 9 K, 10 A
part C pins: 11 K, 12 A
part D pins: Z1 Z2 P$1 (power)
part E pins: 7 NC

## WE-RJ45-LAN-10/100BT-7499010211A
designator RJ45?, comment <pre><big> / <b>Order Code	7499010211A / <b>Design		THT / <b>xBase-T		10/100 Base-T / <b>Ports		1x1 / <b>Application	Standard / <b>Tab Position	DOWN / <b>LED (Left-Right)	Green-Yellow / <b>EMI Fingers	No / </b><br><a href="<br><a href="http://katalog.we-online.de/media/images/eisos/UtLAN_RJ45_pf2.jpg" title="Enlarge picture"> / <img src="http://katalog.we-online.de/media/images/eisos/UtLAN_RJ45_pf2.jpg" width="320"></a><p> / Details see: <a href="http://katalog.we-online.de/en/pbs/WE-LAN_RJ45/7499010211A?">http://katalog.we-online.de/en/pbs/WE-LAN_RJ45/7499010211A?</a><p> / </b> / </b>Updated  by  Dan Xu 2014-07-11<br> / </b>2014 (C) Würth Elektronik
MANUFACTURER: Würth Elektronik eiSos GmbH; CREATED-BY: Christin Zierenner; COMPANY-URL: http://www.we-online.de; CREATED-DATE: AUG 2012; DATASHEET-URL: http://katalog.we-online.de/kataloge/eisos/media/pdf/7499010211A.pdf
footprint 74990-WITH-LED-TYPE2
part A pins: 1 TD+, 2 TD-, 3 RD+, 4 TCT, 5 RCT, 6 RD-, 8 SH (power)
part B pins: 9 A, 10 K
part C pins: 11 K, 12 A
part D pins: Z1 Z2 P$1 (power)
part E pins: 7 NC

## WE-RJ45-LAN-10/100BT-7499011001A
designator RJ45?, comment <pre><big> / <b>Order Code	7499011001A / <b>Design		THT / <b>xBase-T		10/100 Base-T / <b>Ports		1x1 / <b>Application	Standard / <b>Tab Position	Down / <b>LED (Left-Right)	NONE / <b>EMI Fingers	Yes / </b><br><a href="<br><a href="http://katalog.we-online.de/media/images/eisos/UtLAN_RJ45_pf2.jpg" title="Enlarge picture"> / <img src="http://katalog.we-online.de/media/images/eisos/UtLAN_RJ45_pf2.jpg" width="320"></a><p> / Details see: <a href="http://katalog.we-online.de/en/pbs/WE-LAN_RJ45/7499011001A?">http://katalog.we-online.de/en/pbs/WE-LAN_RJ45/7499011001A?</a><p> / </b> / </b>Updated  by  Dan Xu 2014-07-10<br> / </b>2014 (C) Würth Elektronik
MANUFACTURER: Würth Elektronik eiSos GmbH; CREATED-BY: Christin Zierenner; COMPANY-URL: http://www.we-online.de; CREATED-DATE: AUG 2012; DATASHEET-URL: http://katalog.we-online.de/kataloge/eisos/media/pdf/7499011001A.pdf
footprint 74990-WITHOUT-LED-(21.84X15.88MM)
part A pins: 1 TD+, 2 TD-, 3 RD+, 4 TCT, 6 RD-, 7 RCT, 8 SH (power)
part B pins: Z1 Z2 P$1 (power)
part C pins: 5 NC

## WE-RJ45-LAN-10/100BT-7499011002A
designator RJ45?, comment <pre><big> / <b>Order Code	7499011002A / <b>Design		THT / <b>xBase-T		10/100 Base-T / <b>Ports		1x1 / <b>Application	Standard / <b>Tab Position	Down / <b>LED (Left-Right)	NONE / <b>EMI Fingers	Yes / </b><br><a href="<br><a href="http://katalog.we-online.de/media/images/eisos/UtLAN_RJ45_pf2.jpg" title="Enlarge picture"> / <img src="http://katalog.we-online.de/media/images/eisos/UtLAN_RJ45_pf2.jpg" width="320"></a><p> / Details see: <a href="http://katalog.we-online.de/en/pbs/WE-LAN_RJ45/7499010001A?">http://katalog.we-online.de/en/pbs/WE-LAN_RJ45/7499010001A?</a><p> / </b> / </b>Updated  by  Dan Xu 2014-07-10<br> / </b>2014 (C) Würth Elektronik
MANUFACTURER: Würth Elektronik eiSos GmbH; CREATED-BY: Christin Zierenner; COMPANY-URL: http://www.we-online.de; CREATED-DATE: AUG 2012; DATASHEET-URL: http://katalog.we-online.de/kataloge/eisos/media/pdf/7499011002A.pdf
footprint 74990-WITHOUT-LED-(21.84X15.88MM)
part A pins: 1 TD+, 2 TCT, 3 TD-, 4 RD+, 5 RCT, 6 RD-, 8 SH (power)
part B pins: Z1 Z2 P$1 (power)
part C pins: 7 NC

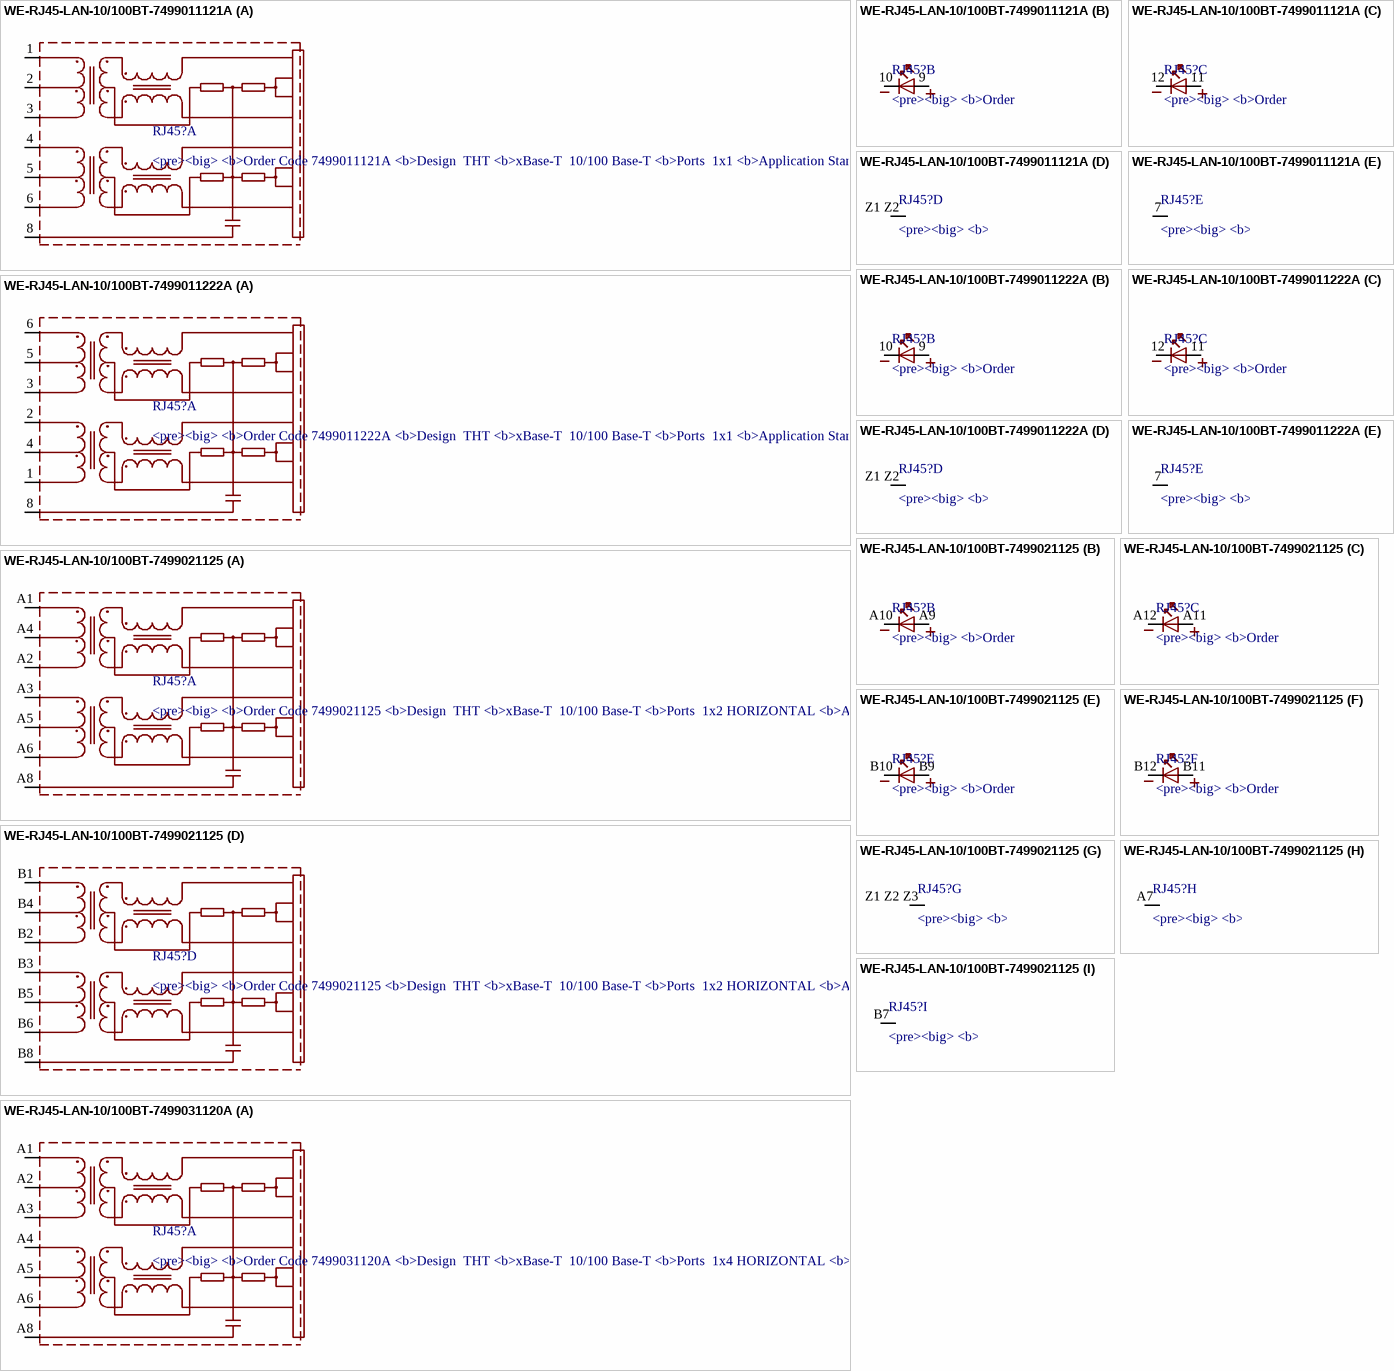
[diagram p34: symbols WE-RJ45-LAN-10/100BT-7499011121A to WE-RJ45-LAN-10/100BT-7499031120A]

## WE-RJ45-LAN-10/100BT-7499011121A
designator RJ45?, comment <pre><big> / <b>Order Code	7499011121A / <b>Design		THT / <b>xBase-T		10/100 Base-T / <b>Ports		1x1 / <b>Application	Standard / <b>Tab Position	DOWN / <b>LED (Left-Right)	Yellow-Green / <b>EMI Fingers	Yes / </b><br><a href="<br><a href="http://katalog.we-online.de/media/images/eisos/UtLAN_RJ45_pf2.jpg" title="Enlarge picture"> / <img src="http://katalog.we-online.de/media/images/eisos/UtLAN_RJ45_pf2.jpg" width="320"></a><p> / Details see: <a href="http://katalog.we-online.de/en/pbs/WE-LAN_RJ45/7499011121A?">http://katalog.we-online.de/en/pbs/WE-LAN_RJ45/7499011121A?</a><p> / </b> / </b>Updated  by  Dan Xu 2014-07-10<br> / </b>2014 (C) Würth Elektronik
MANUFACTURER: Würth Elektronik eiSos GmbH; CREATED-BY: Christin Zierenner; COMPANY-URL: http://www.we-online.de; CREATED-DATE: AUG 2012; DATASHEET-URL: http://katalog.we-online.de/kataloge/eisos/media/pdf/7499011121A.pdf
footprint 74990-WITH-LED-TYPE1
part A pins: 1 TD+, 2 TCT, 3 TD-, 4 RD+, 5 RCT, 6 RD-, 8 SH (power)
part B pins: 9 A, 10 K
part C pins: 11 A, 12 K
part D pins: Z1 Z2 P$1 (power)
part E pins: 7 NC

## WE-RJ45-LAN-10/100BT-7499011222A
designator RJ45?, comment <pre><big> / <b>Order Code	7499011222A / <b>Design		THT / <b>xBase-T		10/100 Base-T / <b>Ports		1x1 / <b>Application	Standard / <b>Tab Position	DOWN / <b>LED (Left-Right)	Green-Green / <b>EMI Fingers	Yes / </b><br><a href="<br><a href="http://katalog.we-online.de/media/images/eisos/UtLAN_RJ45_pf2.jpg" title="Enlarge picture"> / <img src="http://katalog.we-online.de/media/images/eisos/UtLAN_RJ45_pf2.jpg" width="320"></a><p> / Details see: <a href="http://katalog.we-online.de/en/pbs/WE-LAN_RJ45/7499011222A?">http://katalog.we-online.de/en/pbs/WE-LAN_RJ45/7499011222A?</a><p> / </b> / </b>Updated  by  Dan Xu 2014-07-10<br> / </b>2014 (C) Würth Elektronik
MANUFACTURER: Würth Elektronik eiSos GmbH; CREATED-BY: Christin Zierenner; COMPANY-URL: http://www.we-online.de; CREATED-DATE: AUG 2012; DATASHEET-URL: http://katalog.we-online.de/kataloge/eisos/media/pdf/7499011222A.pdf
footprint 74990-WITH-LED-TYPE1
part A pins: 1 TD-, 2 TD+, 3 RD-, 4 TCT, 5 RCT, 6 RD+, 8 SH (power)
part B pins: 9 A, 10 K
part C pins: 11 A, 12 K
part D pins: Z1 Z2 P$1 (power)
part E pins: 7 NC

## WE-RJ45-LAN-10/100BT-7499021125
designator RJ45?, comment <pre><big> / <b>Order Code	7499021125 / <b>Design		THT / <b>xBase-T		10/100 Base-T / <b>Ports		1x2 HORIZONTAL / <b>Application	Standard / <b>Tab Position	DOWN / <b>LED (Left-Right)	YELLOW-GREEN / <b>EMI Fingers	Yes / </b><br><a href="<br><a href="http://katalog.we-online.de/media/images/eisos/UtLAN_RJ45_pf2.jpg" title="Enlarge picture"> / <img src="http://katalog.we-online.de/media/images/eisos/UtLAN_RJ45_pf2.jpg" width="320"></a><p> / Details see: <a href="http://katalog.we-online.de/en/pbs/WE-LAN_RJ45/7499021125?">http://katalog.we-online.de/en/pbs/WE-LAN_RJ45/7499021125?</a><p> / </b> / </b>Updated  by  Dan Xu 2014-07-10<br> / </b>2014 (C) Würth Elektronik
MANUFACTURER: Würth Elektronik eiSos GmbH; CREATED-BY: Christin Zierenner; COMPANY-URL: http://www.we-online.de; CREATED-DATE: AUG 2012; DATASHEET-URL: http://katalog.we-online.de/kataloge/eisos/media/pdf/7499021125.pdf
footprint 7499021125-2PORTS-HORIZONTAL
part A pins: A1 RD+, A2 RD-, A3 TD+, A4 RCT, A5 TCT, A6 TD-, A8 SH (power)
part B pins: A9 A, A10 K
part C pins: A11 A, A12 K
part D pins: B1 RD+, B2 RD-, B3 TD+, B4 RCT, B5 TCT, B6 TD-, B8 SH (power)
part E pins: B9 A, B10 K
part F pins: B11 A, B12 K
part G pins: Z1 Z2 Z3 P$1 (power)
part H pins: A7 NC
part I pins: B7 NC

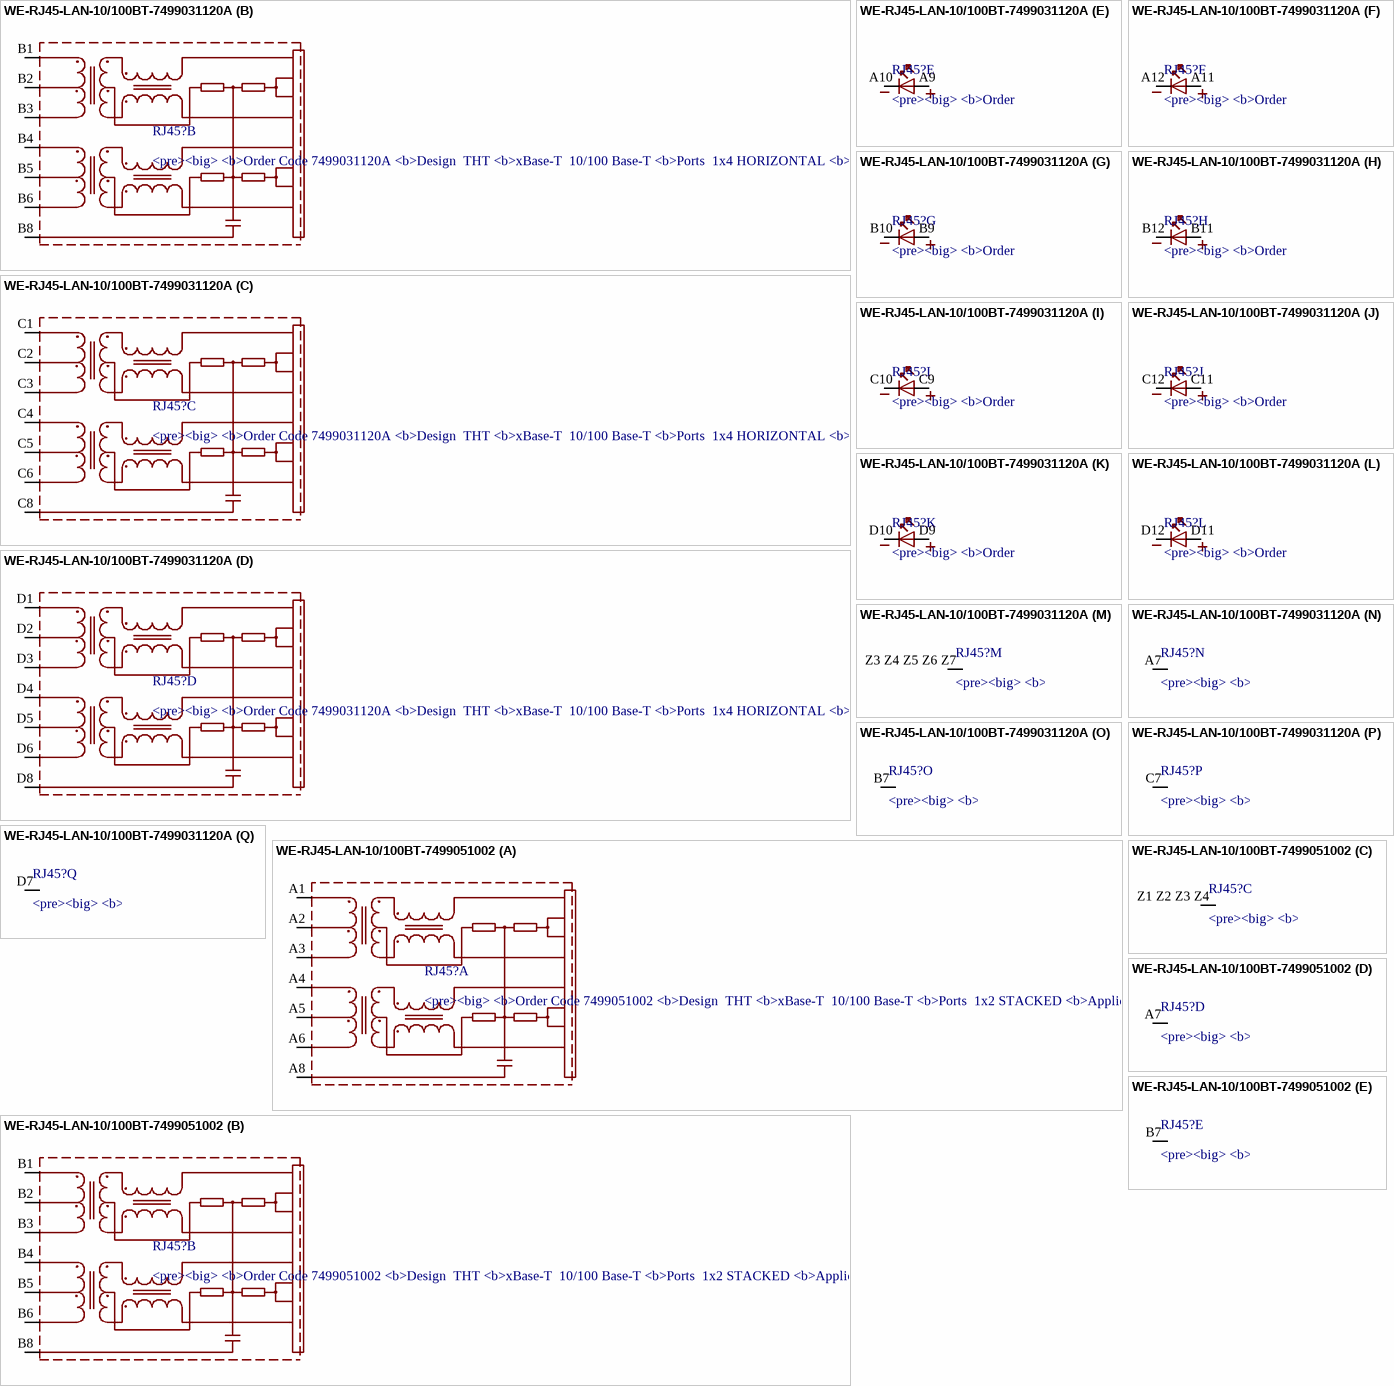
[diagram p35: symbols WE-RJ45-LAN-10/100BT-7499031120A to WE-RJ45-LAN-10/100BT-7499051002]

## WE-RJ45-LAN-10/100BT-7499031120A
designator RJ45?, comment <pre><big> / <b>Order Code	7499031120A / <b>Design		THT / <b>xBase-T		10/100 Base-T / <b>Ports		1x4 HORIZONTAL / <b>Application	Standard / <b>Tab Position	DOWN / <b>LED (Left-Right)	YELLOW-GREEN / <b>EMI Fingers	Yes / </b><br><a href="<br><a href="http://katalog.we-online.de/media/images/eisos/UtLAN_RJ45_pf2.jpg" title="Enlarge picture"> / <img src="http://katalog.we-online.de/media/images/eisos/UtLAN_RJ45_pf2.jpg" width="320"></a><p> / Details see: <a href="http://katalog.we-online.de/en/pbs/WE-LAN_RJ45/7499031120A?">http://katalog.we-online.de/en/pbs/WE-LAN_RJ45/7499031120A?</a><p> / </b> / </b>Updated  by  Dan Xu 2014-07-10<br> / </b>2014 (C) Würth Elektronik
MANUFACTURER: Würth Elektronik eiSos GmbH; CREATED-BY: Christin Zierenner; COMPANY-URL: http://www.we-online.de; CREATED-DATE: AUG 2012; DATASHEET-URL: http://katalog.we-online.de/kataloge/eisos/media/pdf/7499031120A.pdf
footprint 7499031120A-4PORTS-HORIZONTAL
part A pins: A1 RD+, A2 RCT, A3 RD-, A4 TD+, A5 TCT, A6 TD-, A8 SH (power)
part B pins: B1 RD+, B2 RCT, B3 RD-, B4 TD+, B5 TCT, B6 TD-, B8 SH (power)
part C pins: C1 RD+, C2 RCT, C3 RD-, C4 TD+, C5 TCT, C6 TD-, C8 SH (power)
part D pins: D1 RD+, D2 RCT, D3 RD-, D4 TD+, D5 TCT, D6 TD-, D8 SH (power)
part E pins: A9 A, A10 K
part F pins: A11 A, A12 K
part G pins: B9 A, B10 K
part H pins: B11 A, B12 K
part I pins: C9 A, C10 K
part J pins: C11 A, C12 K
part K pins: D9 A, D10 K
part L pins: D11 A, D12 K
part M pins: Z3 Z4 Z5 Z6 Z7 P$1 (power)
part N pins: A7 NC
part O pins: B7 NC
part P pins: C7 NC
part Q pins: D7 NC

## WE-RJ45-LAN-10/100BT-7499051002
designator RJ45?, comment <pre><big> / <b>Order Code	7499051002 / <b>Design		THT / <b>xBase-T		10/100 Base-T / <b>Ports		1x2 STACKED / <b>Application	Standard / <b>Tab Position	UP & DOWN / <b>LED (Left-Right)	NONE / <b>EMI Fingers	Yes / </b><br><a href="<br><a href="http://katalog.we-online.de/media/images/eisos/UtLAN_RJ45_pf2.jpg" title="Enlarge picture"> / <img src="http://katalog.we-online.de/media/images/eisos/UtLAN_RJ45_pf2.jpg" width="320"></a><p> / Details see: <a href="http://katalog.we-online.de/en/pbs/WE-LAN_RJ45/7499051002?">http://katalog.we-online.de/en/pbs/WE-LAN_RJ45/7499051002?</a><p> / </b> / </b>Updated  by  Dan Xu 2014-07-10<br> / </b>2014 (C) Würth Elektronik
MANUFACTURER: Würth Elektronik eiSos GmbH; CREATED-BY: Christin Zierenner; COMPANY-URL: http://www.we-online.de; CREATED-DATE: AUG 2012; DATASHEET-URL: http://katalog.we-online.de/kataloge/eisos/media/pdf/7499051002.pdf
footprint 7499051002-1X2-STACKED
part A pins: A1 TD+, A2 TCT, A3 TD-, A4 RD+, A5 RCT, A6 RD-, A8 SH (power)
part B pins: B1 TD+, B2 TCT, B3 TD-, B4 RD+, B5 RCT, B6 RD-, B8 SH (power)
part C pins: Z1 Z2 Z3 Z4 P$1 (power)
part D pins: A7 NC
part E pins: B7 NC

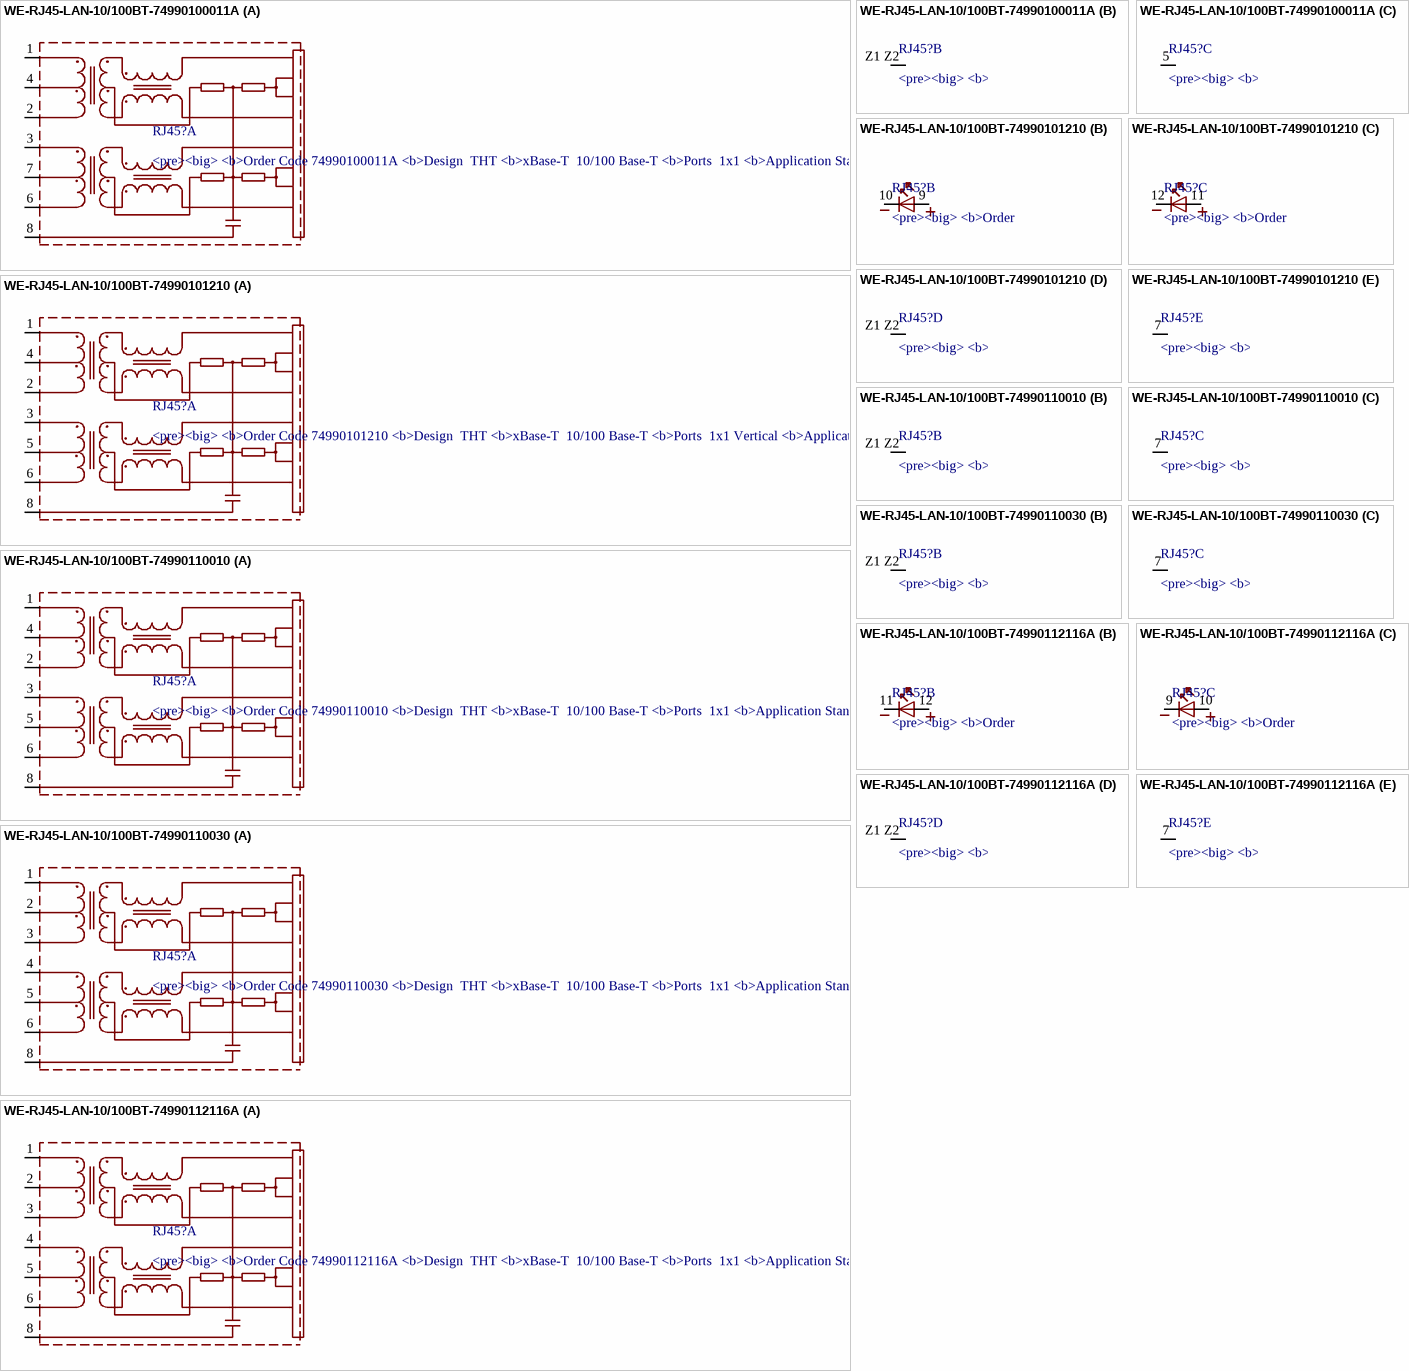
[diagram p36: symbols WE-RJ45-LAN-10/100BT-74990100011A to WE-RJ45-LAN-10/100BT-74990112116A]

## WE-RJ45-LAN-10/100BT-74990100011A
designator RJ45?, comment <pre><big> / <b>Order Code	74990100011A / <b>Design		THT / <b>xBase-T		10/100 Base-T / <b>Ports		1x1 / <b>Application	Standard / <b>Tab Position	UP / <b>LED (Left-Right)	NONE / <b>EMI Fingers	No / </b><br><a href="<br><a href="http://katalog.we-online.de/media/images/eisos/UtLAN_RJ45_pf2.jpg" title="Enlarge picture"> / <img src="http://katalog.we-online.de/media/images/eisos/UtLAN_RJ45_pf2.jpg" width="320"></a><p> / Details see: <a href="http://katalog.we-online.de/en/pbs/WE-LAN_RJ45/74990100011A?">http://katalog.we-online.de/en/pbs/WE-LAN_RJ45/74990100011A?</a><p> / </b> / </b>Updated  by  Dan Xu 2014-07-10<br> / </b>2014 (C) Würth Elektronik
MANUFACTURER: Würth Elektronik eiSos GmbH; CREATED-BY: Christin Zierenner; COMPANY-URL: http://www.we-online.de; CREATED-DATE: AUG 2012; DATASHEET-URL: http://katalog.we-online.de/kataloge/eisos/media/pdf/74990100011A.pdf
footprint 74990-WITHOUT-LED-(21.84X16.2MM)
part A pins: 1 RD+, 2 RD-, 3 TD+, 4 RCT, 6 TD-, 7 TCT, 8 SH (power)
part B pins: Z1 Z2 P$1 (power)
part C pins: 5 NC

## WE-RJ45-LAN-10/100BT-74990101210
designator RJ45?, comment <pre><big> / <b>Order Code	74990101210 / <b>Design		THT / <b>xBase-T		10/100 Base-T / <b>Ports		1x1 Vertical / <b>Application	Standard / <b>Tab Position 	Vertical / <b>LED (Left-Right)	Yellow-Green / <b>EMI Fingers	No / </b><br><a href="<br><a href="http://katalog.we-online.de/media/images/eisos/UtLAN_RJ45_pf2.jpg" title="Enlarge picture"> / <img src="http://katalog.we-online.de/media/images/eisos/UtLAN_RJ45_pf2.jpg" width="320"></a><p> / Details see: <a href="http://katalog.we-online.de/en/pbs/WE-LAN_RJ45/74990101210?">http://katalog.we-online.de/en/pbs/WE-LAN_RJ45/74990101210?</a><p> / </b> / </b>Updated  by  Dan Xu 2014-07-10<br> / </b>2014 (C) Würth Elektronik
MANUFACTURER: Würth Elektronik eiSos GmbH; CREATED-BY: Christin Zierenner; COMPANY-URL: http://www.we-online.de; CREATED-DATE: AUG 2012; DATASHEET-URL: http://katalog.we-online.de/kataloge/eisos/media/pdf/74990101210.pdf
footprint 74990101210-VERTICALMOUNT
part A pins: 1 TD+, 2 TD-, 3 RD+, 4 TCT, 5 RCT, 6 RD-, 8 SH (power)
part B pins: 9 A, 10 K
part C pins: 11 A, 12 K
part D pins: Z1 Z2 P$1 (power)
part E pins: 7 NC

## WE-RJ45-LAN-10/100BT-74990110010
designator RJ45?, comment <pre><big> / <b>Order Code	74990110010 / <b>Design		THT / <b>xBase-T		10/100 Base-T / <b>Ports		1x1 / <b>Application	Standard / <b>Tab Position	UP / <b>LED (Left-Right)	NONE / <b>EMI Fingers	Yes / </b><br><a href="<br><a href="http://katalog.we-online.de/media/images/eisos/UtLAN_RJ45_pf2.jpg" title="Enlarge picture"> / <img src="http://katalog.we-online.de/media/images/eisos/UtLAN_RJ45_pf2.jpg" width="320"></a><p> / Details see: <a href="http://katalog.we-online.de/en/pbs/WE-LAN_RJ45/74990110010?">http://katalog.we-online.de/en/pbs/WE-LAN_RJ45/74990110010?</a><p> / </b> / </b>Updated  by  Dan Xu 2014-07-10<br> / </b>2014 (C) Würth Elektronik
MANUFACTURER: Würth Elektronik eiSos GmbH; CREATED-BY: Christin Zierenner; COMPANY-URL: http://www.we-online.de; CREATED-DATE: AUG 2012; DATASHEET-URL: http://katalog.we-online.de/kataloge/eisos/media/pdf/74990110010.pdf
footprint 74990-WITHOUT-LED
part A pins: 1 TD+, 2 TD-, 3 RD+, 4 TCT, 5 RCT, 6 RD-, 8 SH (power)
part B pins: Z1 Z2 P$1 (power)
part C pins: 7 NC

## WE-RJ45-LAN-10/100BT-74990110030
designator RJ45?, comment <pre><big> / <b>Order Code	74990110030 / <b>Design		THT / <b>xBase-T		10/100 Base-T / <b>Ports		1x1 / <b>Application	Standard / <b>Tab Position	UP / <b>LED (Left-Right)	NONE / <b>EMI Fingers	Yes / </b><br><a href="<br><a href="http://katalog.we-online.de/media/images/eisos/UtLAN_RJ45_pf2.jpg" title="Enlarge picture"> / <img src="http://katalog.we-online.de/media/images/eisos/UtLAN_RJ45_pf2.jpg" width="320"></a><p> / Details see: <a href="http://katalog.we-online.de/en/pbs/WE-LAN_RJ45/74990110030?">http://katalog.we-online.de/en/pbs/WE-LAN_RJ45/74990110030?</a><p> / </b> / </b>Updated  by  Dan Xu 2014-07-10<br> / </b>2014 (C) Würth Elektronik
MANUFACTURER: Würth Elektronik eiSos GmbH; CREATED-BY: Christin Zierenner; COMPANY-URL: http://www.we-online.de; CREATED-DATE: AUG 2012; DATASHEET-URL: http://katalog.we-online.de/kataloge/eisos/media/pdf/74990110030.pdf
footprint 74990110030
part A pins: 1 TD+, 2 TCT, 3 TD-, 4 RD+, 5 RCT, 6 RD-, 8 SH (power)
part B pins: Z1 Z2 P$1 (power)
part C pins: 7 NC

## WE-RJ45-LAN-10/100BT-74990112116A
designator RJ45?, comment <pre><big> / <b>Order Code	74990112116A / <b>Design		THT / <b>xBase-T		10/100 Base-T / <b>Ports		1x1 / <b>Application	Standard / <b>Tab Position	UP / <b>LED (Left-Right)	Green-Yellow / <b>EMI Fingers	Yes / </b><br><a href="<br><a href="http://katalog.we-online.de/media/images/eisos/UtLAN_RJ45_pf2.jpg" title="Enlarge picture"> / <img src="http://katalog.we-online.de/media/images/eisos/UtLAN_RJ45_pf2.jpg" width="320"></a><p> / Details see: <a href="http://katalog.we-online.de/en/pbs/WE-LAN_RJ45/74990112116A?">http://katalog.we-online.de/en/pbs/WE-LAN_RJ45/74990112116A?</a><p> / </b> / </b>Updated  by  Dan Xu 2014-07-10<br> / </b>2014 (C) Würth Elektronik
MANUFACTURER: Würth Elektronik eiSos GmbH; CREATED-BY: Christin Zierenner; COMPANY-URL: http://www.we-online.de; CREATED-DATE: AUG 2012; DATASHEET-URL: http://katalog.we-online.de/kataloge/eisos/media/pdf/74990112116A.pdf
footprint 74990-WITH-LED
part A pins: 1 TD+, 2 TCT, 3 TD-, 4 RD+, 5 RCT, 6 RD-, 8 SH (power)
part B pins: 11 K, 12 A
part C pins: 9 K, 10 A
part D pins: Z1 Z2 P$1 (power)
part E pins: 7 NC

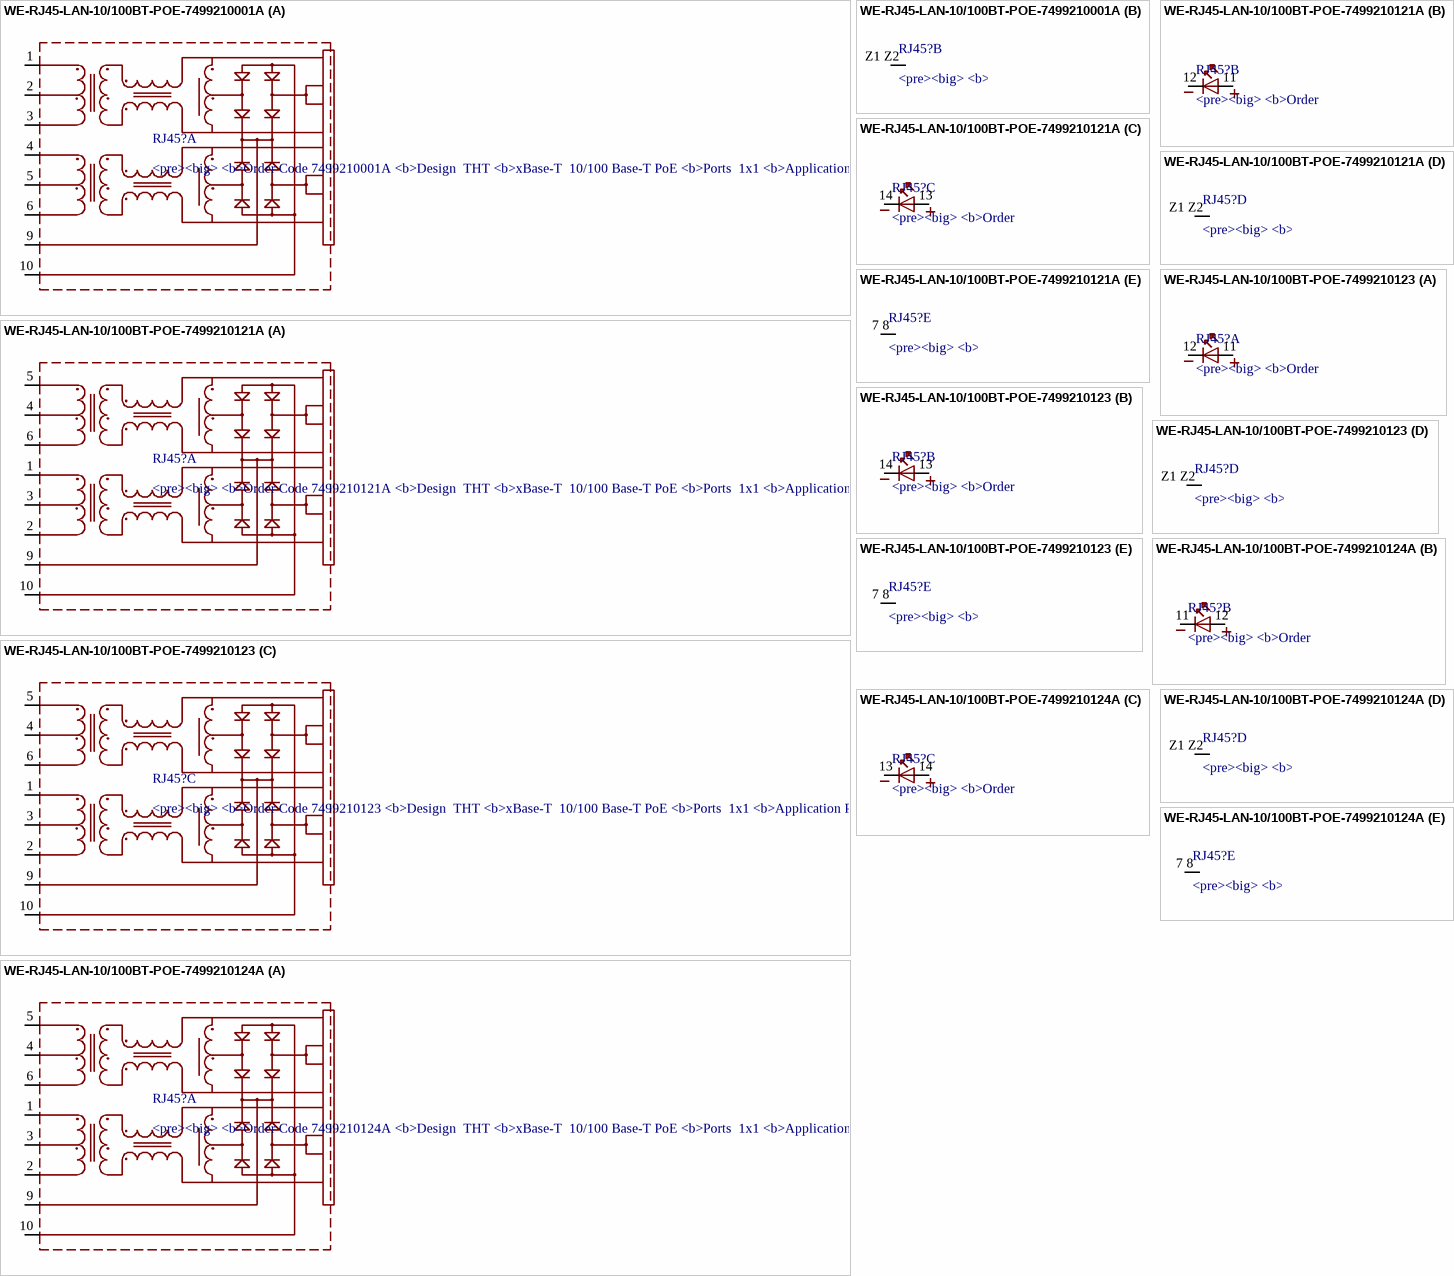
[diagram p37: symbols WE-RJ45-LAN-10/100BT-POE-7499210001A to WE-RJ45-LAN-10/100BT-POE-7499210124A]

## WE-RJ45-LAN-10/100BT-POE-7499210001A
designator RJ45?, comment <pre><big> / <b>Order Code	7499210001A / <b>Design		THT / <b>xBase-T		10/100 Base-T PoE / <b>Ports		1x1 / <b>Application	PoE / <b>Tab Position	UP / <b>LED (Left-Right)	NONE / <b>EMI Fingers	No / </b><br><a href="<br><a href="http://katalog.we-online.de/media/images/eisos/UtLAN_RJ45_pf2.jpg" title="Enlarge picture"> / <img src="http://katalog.we-online.de/media/images/eisos/UtLAN_RJ45_pf2.jpg" width="320"></a><p> / Details see: <a href="http://katalog.we-online.de/en/pbs/WE-LAN_RJ45/7499210001A?">http://katalog.we-online.de/en/pbs/WE-LAN_RJ45/7499210001A?</a><p> / </b> / </b>Updated  by  Dan Xu 2014-07-10<br> / </b>2014 (C) Würth Elektronik
MANUFACTURER: Würth Elektronik eiSos GmbH; CREATED-BY: Christin Zierenner; COMPANY-URL: http://www.we-online.de; CREATED-DATE: AUG 2012; DATASHEET-URL: http://katalog.we-online.de/kataloge/eisos/media/pdf/7499210001A.pdf
footprint 7499210001A
part A pins: 1 TD+, 2 TCT, 3 TD-, 4 RD+, 5 RCT, 6 RD-, 9 VC1+ (power), 10 VC1- (power)
part B pins: Z1 Z2 P$1 (power)

## WE-RJ45-LAN-10/100BT-POE-7499210121A
designator RJ45?, comment <pre><big> / <b>Order Code	7499210121A / <b>Design		THT / <b>xBase-T		10/100 Base-T PoE / <b>Ports		1x1 / <b>Application	PoE / <b>Tab Position	DOWN / <b>LED (Left-Right)	YELLOW-GREEN / <b>EMI Fingers	No / </b><br><a href="<br><a href="http://katalog.we-online.de/media/images/eisos/UtLAN_RJ45_pf2.jpg" title="Enlarge picture"> / <img src="http://katalog.we-online.de/media/images/eisos/UtLAN_RJ45_pf2.jpg" width="320"></a><p> / Details see: <a href="http://katalog.we-online.de/en/pbs/WE-LAN_RJ45/7499210121A?">http://katalog.we-online.de/en/pbs/WE-LAN_RJ45/7499210121A?</a><p> / </b> / </b>Updated  by  Dan Xu 2014-07-10<br> / </b>2014 (C) Würth Elektronik
MANUFACTURER: Würth Elektronik eiSos GmbH; CREATED-BY: Christin Zierenner; COMPANY-URL: http://www.we-online.de; CREATED-DATE: AUG 2012; DATASHEET-URL: http://katalog.we-online.de/kataloge/eisos/media/pdf/7499210121A.pdf
footprint 7499210121A
part A pins: 1 RD+, 2 RD-, 3 RCT, 4 TCT, 5 TD+, 6 TD-, 9 VC1+ (power), 10 VC1- (power)
part B pins: 11 A, 12 K
part C pins: 13 A, 14 K
part D pins: Z1 Z2 P$1 (power)
part E pins: 7 8 NC

## WE-RJ45-LAN-10/100BT-POE-7499210123
designator RJ45?, comment <pre><big> / <b>Order Code	7499210123 / <b>Design		THT / <b>xBase-T		10/100 Base-T PoE / <b>Ports		1x1 / <b>Application	PoE / <b>Tab Position	VERTICAL / <b>LED (Left-Right)	YELLOW-GREEN / <b>EMI Fingers	No / </b><br><a href="<br><a href="http://katalog.we-online.de/media/images/eisos/UtLAN_RJ45_pf2.jpg" title="Enlarge picture"> / <img src="http://katalog.we-online.de/media/images/eisos/UtLAN_RJ45_pf2.jpg" width="320"></a><p> / Details see: <a href="http://katalog.we-online.de/en/pbs/WE-LAN_RJ45/7499210123?">http://katalog.we-online.de/en/pbs/WE-LAN_RJ45/7499210123?</a><p> / </b> / </b>Updated  by  Dan Xu 2014-07-10<br> / </b>2014 (C) Würth Elektronik
MANUFACTURER: Würth Elektronik eiSos GmbH; CREATED-BY: Christin Zierenner; COMPANY-URL: http://www.we-online.de; CREATED-DATE: AUG 2012; DATASHEET-URL: http://katalog.we-online.de/kataloge/eisos/media/pdf/7499210123.pdf
footprint 7499210123
part A pins: 11 A, 12 K
part B pins: 13 A, 14 K
part C pins: 1 RD+, 2 RD-, 3 RCT, 4 TCT, 5 TD+, 6 TD-, 9 VC1+ (power), 10 VC1- (power)
part D pins: Z1 Z2 P$1 (power)
part E pins: 7 8 NC

## WE-RJ45-LAN-10/100BT-POE-7499210124A
designator RJ45?, comment <pre><big> / <b>Order Code	7499210124A / <b>Design		THT / <b>xBase-T		10/100 Base-T PoE / <b>Ports		1x1 / <b>Application	PoE / <b>Tab Position	UP / <b>LED (Left-Right)	YELLOW-GREEN / <b>EMI Fingers	No / </b><br><a href="<br><a href="http://katalog.we-online.de/media/images/eisos/UtLAN_RJ45_pf2.jpg" title="Enlarge picture"> / <img src="http://katalog.we-online.de/media/images/eisos/UtLAN_RJ45_pf2.jpg" width="320"></a><p> / Details see: <a href="http://katalog.we-online.de/en/pbs/WE-LAN_RJ45/7499210124A?">http://katalog.we-online.de/en/pbs/WE-LAN_RJ45/7499210124A?</a><p> / </b> / </b>Updated  by  Dan Xu 2014-07-10<br> / </b>2014 (C) Würth Elektronik
MANUFACTURER: Würth Elektronik eiSos GmbH; CREATED-BY: Christin Zierenner; COMPANY-URL: http://www.we-online.de; CREATED-DATE: AUG 2012; DATASHEET-URL: http://katalog.we-online.de/kataloge/eisos/media/pdf/7499210124A.pdf
footprint 7499210124A
part A pins: 1 RD+, 2 RD-, 3 RCT, 4 TCT, 5 TD+, 6 TD-, 9 VC1+ (power), 10 VC1- (power)
part B pins: 11 K, 12 A
part C pins: 13 K, 14 A
part D pins: Z1 Z2 P$1 (power)
part E pins: 7 8 NC

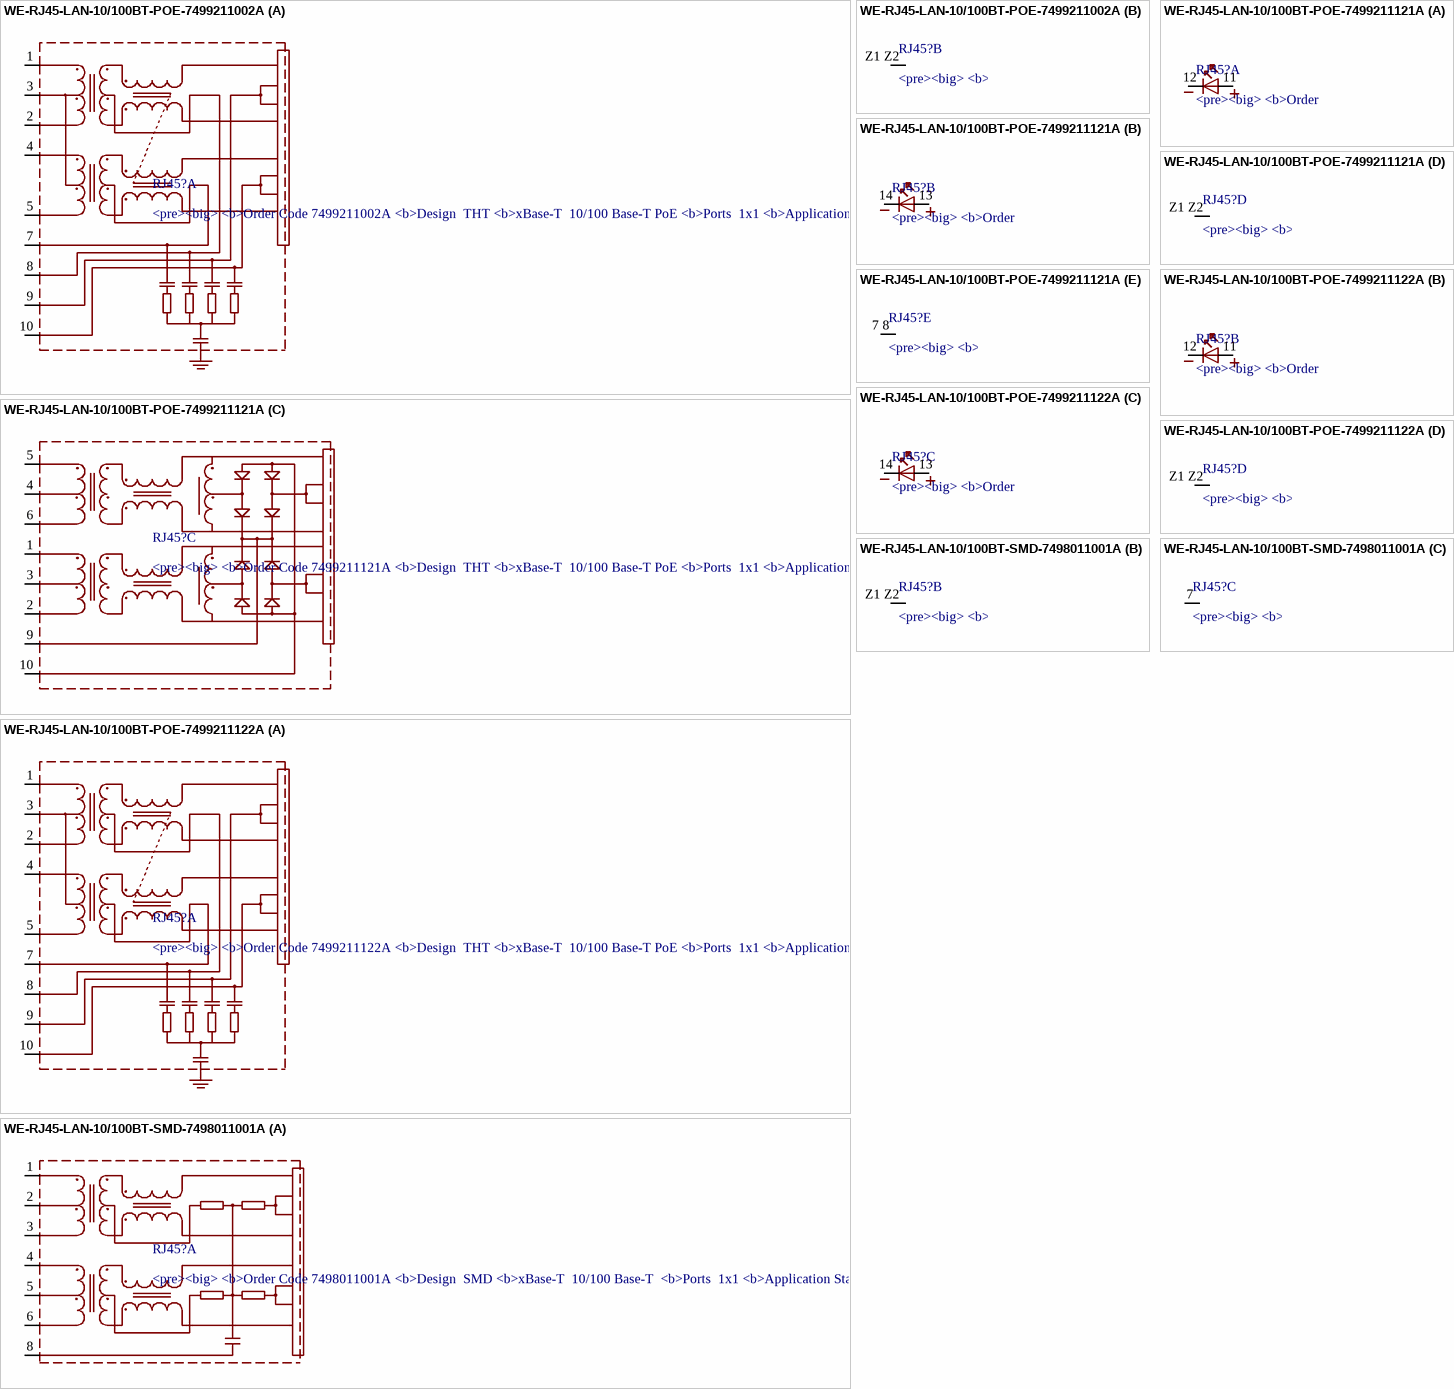
[diagram p38: symbols WE-RJ45-LAN-10/100BT-POE-7499211002A to WE-RJ45-LAN-10/100BT-SMD-7498011001A]

## WE-RJ45-LAN-10/100BT-POE-7499211002A
designator RJ45?, comment <pre><big> / <b>Order Code	7499211002A / <b>Design		THT / <b>xBase-T		10/100 Base-T PoE / <b>Ports		1x1 / <b>Application	PoE / <b>Tab Position	DOWN / <b>LED (Left-Right)	NONE / <b>EMI Fingers	Yes / </b><br><a href="<br><a href="http://katalog.we-online.de/media/images/eisos/UtLAN_RJ45_pf2.jpg" title="Enlarge picture"> / <img src="http://katalog.we-online.de/media/images/eisos/UtLAN_RJ45_pf2.jpg" width="320"></a><p> / Details see: <a href="http://katalog.we-online.de/en/pbs/WE-LAN_RJ45/7499211002A?">http://katalog.we-online.de/en/pbs/WE-LAN_RJ45/7499211002A?</a><p> / </b> / </b>Updated  by  Dan Xu 2014-07-10<br> / </b>2014 (C) Würth Elektronik
MANUFACTURER: Würth Elektronik eiSos GmbH; CREATED-BY: Christin Zierenner; COMPANY-URL: http://www.we-online.de; CREATED-DATE: AUG 2012; DATASHEET-URL: http://katalog.we-online.de/kataloge/eisos/media/pdf/7499211002A.pdf
footprint 7499211002A
part A pins: 1 TD+, 2 TD-, 3 TCT, 4 RD+, 5 RD-, 7 VC1+ (power), 8 VC1- (power), 9 VC2+ (power), 10 VC2- (power)
part B pins: Z1 Z2 P$1 (power)

## WE-RJ45-LAN-10/100BT-POE-7499211121A
designator RJ45?, comment <pre><big> / <b>Order Code	7499211121A / <b>Design		THT / <b>xBase-T		10/100 Base-T PoE / <b>Ports		1x1 / <b>Application	PoE / <b>Tab Position	DOWN / <b>LED (Left-Right)	YELLOW-GREEN / <b>EMI Fingers	Yes / </b><br><a href="<br><a href="http://katalog.we-online.de/media/images/eisos/UtLAN_RJ45_pf2.jpg" title="Enlarge picture"> / <img src="http://katalog.we-online.de/media/images/eisos/UtLAN_RJ45_pf2.jpg" width="320"></a><p> / Details see: <a href="http://katalog.we-online.de/en/pbs/WE-LAN_RJ45/7499211121A?">http://katalog.we-online.de/en/pbs/WE-LAN_RJ45/7499211121A?</a><p> / </b> / </b>Updated  by  Dan Xu 2014-07-10<br> / </b>2014 (C) Würth Elektronik
MANUFACTURER: Würth Elektronik eiSos GmbH; CREATED-BY: Christin Zierenner; COMPANY-URL: http://www.we-online.de; CREATED-DATE: AUG 2012; DATASHEET-URL: http://katalog.we-online.de/kataloge/eisos/media/pdf/7499211121A.pdf
footprint 7499211121A
part A pins: 11 A, 12 K
part B pins: 13 A, 14 K
part C pins: 1 RD+, 2 RD-, 3 RCT, 4 TCT, 5 TD+, 6 TD-, 9 VC1+ (power), 10 VC1- (power)
part D pins: Z1 Z2 P$1 (power)
part E pins: 7 8 NC

## WE-RJ45-LAN-10/100BT-POE-7499211122A
designator RJ45?, comment <pre><big> / <b>Order Code	7499211122A / <b>Design		THT / <b>xBase-T		10/100 Base-T PoE / <b>Ports		1x1 / <b>Application	PoE / <b>Tab Position	DOWN / <b>LED (Left-Right)	YELLOW-GREEN / <b>EMI Fingers	Yes / </b><br><a href="<br><a href="http://katalog.we-online.de/media/images/eisos/UtLAN_RJ45_pf2.jpg" title="Enlarge picture"> / <img src="http://katalog.we-online.de/media/images/eisos/UtLAN_RJ45_pf2.jpg" width="320"></a><p> / Details see: <a href="http://katalog.we-online.de/en/pbs/WE-LAN_RJ45/7499211122A?">http://katalog.we-online.de/en/pbs/WE-LAN_RJ45/7499211122A?</a><p> / </b> / </b>Updated  by  Dan Xu 2014-07-10<br> / </b>2014 (C) Würth Elektronik
MANUFACTURER: Würth Elektronik eiSos GmbH; CREATED-BY: Christin Zierenner; COMPANY-URL: http://www.we-online.de; CREATED-DATE: AUG 2012; DATASHEET-URL: http://katalog.we-online.de/kataloge/eisos/media/pdf/7499211122A.pdf
footprint 7499211122A
part A pins: 1 RD+, 2 RD-, 3 RCT, 4 TD+, 5 TD-, 7 VC1+ (power), 8 VC1- (power), 9 VC2+ (power), 10 VC2- (power)
part B pins: 11 A, 12 K
part C pins: 13 A, 14 K
part D pins: Z1 Z2 P$1 (power)

## WE-RJ45-LAN-10/100BT-SMD-7498011001A
designator RJ45?, comment <pre><big> / <b>Order Code	7498011001A / <b>Design		SMD / <b>xBase-T		10/100 Base-T / <b>Ports		1x1 / <b>Application	Standard / <b>Tab Position	Down / <b>LED (Left-Right)	None / <b>EMI Fingers	Yes / </b><br><a href="<br><a href="http://katalog.we-online.de/media/images/eisos/UtLAN_RJ45_pf2.jpg" title="Enlarge picture"> / <img src="http://katalog.we-online.de/media/images/eisos/UtLAN_RJ45_pf2.jpg" width="320"></a><p> / Details see: <a href="http://katalog.we-online.de/en/pbs/WE-LAN_RJ45/7498011001A?">http://katalog.we-online.de/en/pbs/WE-LAN_RJ45/7498011001A?</a><p> / </b> / </b>Updated  by  Dan Xu 2014-07-10<br> / </b>2014 (C) Würth Elektronik
MANUFACTURER: Würth Elektronik eiSos GmbH; CREATED-BY: Christin Zierenner; COMPANY-URL: http://www.we-online.de; CREATED-DATE: AUG 2012; DATASHEET-URL: http://katalog.we-online.de/kataloge/eisos/media/pdf/7498011001A.pdf
footprint 749801100X
part A pins: 1 TD+, 2 TCT, 3 TD-, 4 RD+, 5 RCT, 6 RD-, 8 SH (power)
part B pins: Z1 Z2 P$1 (power)
part C pins: 7 NC

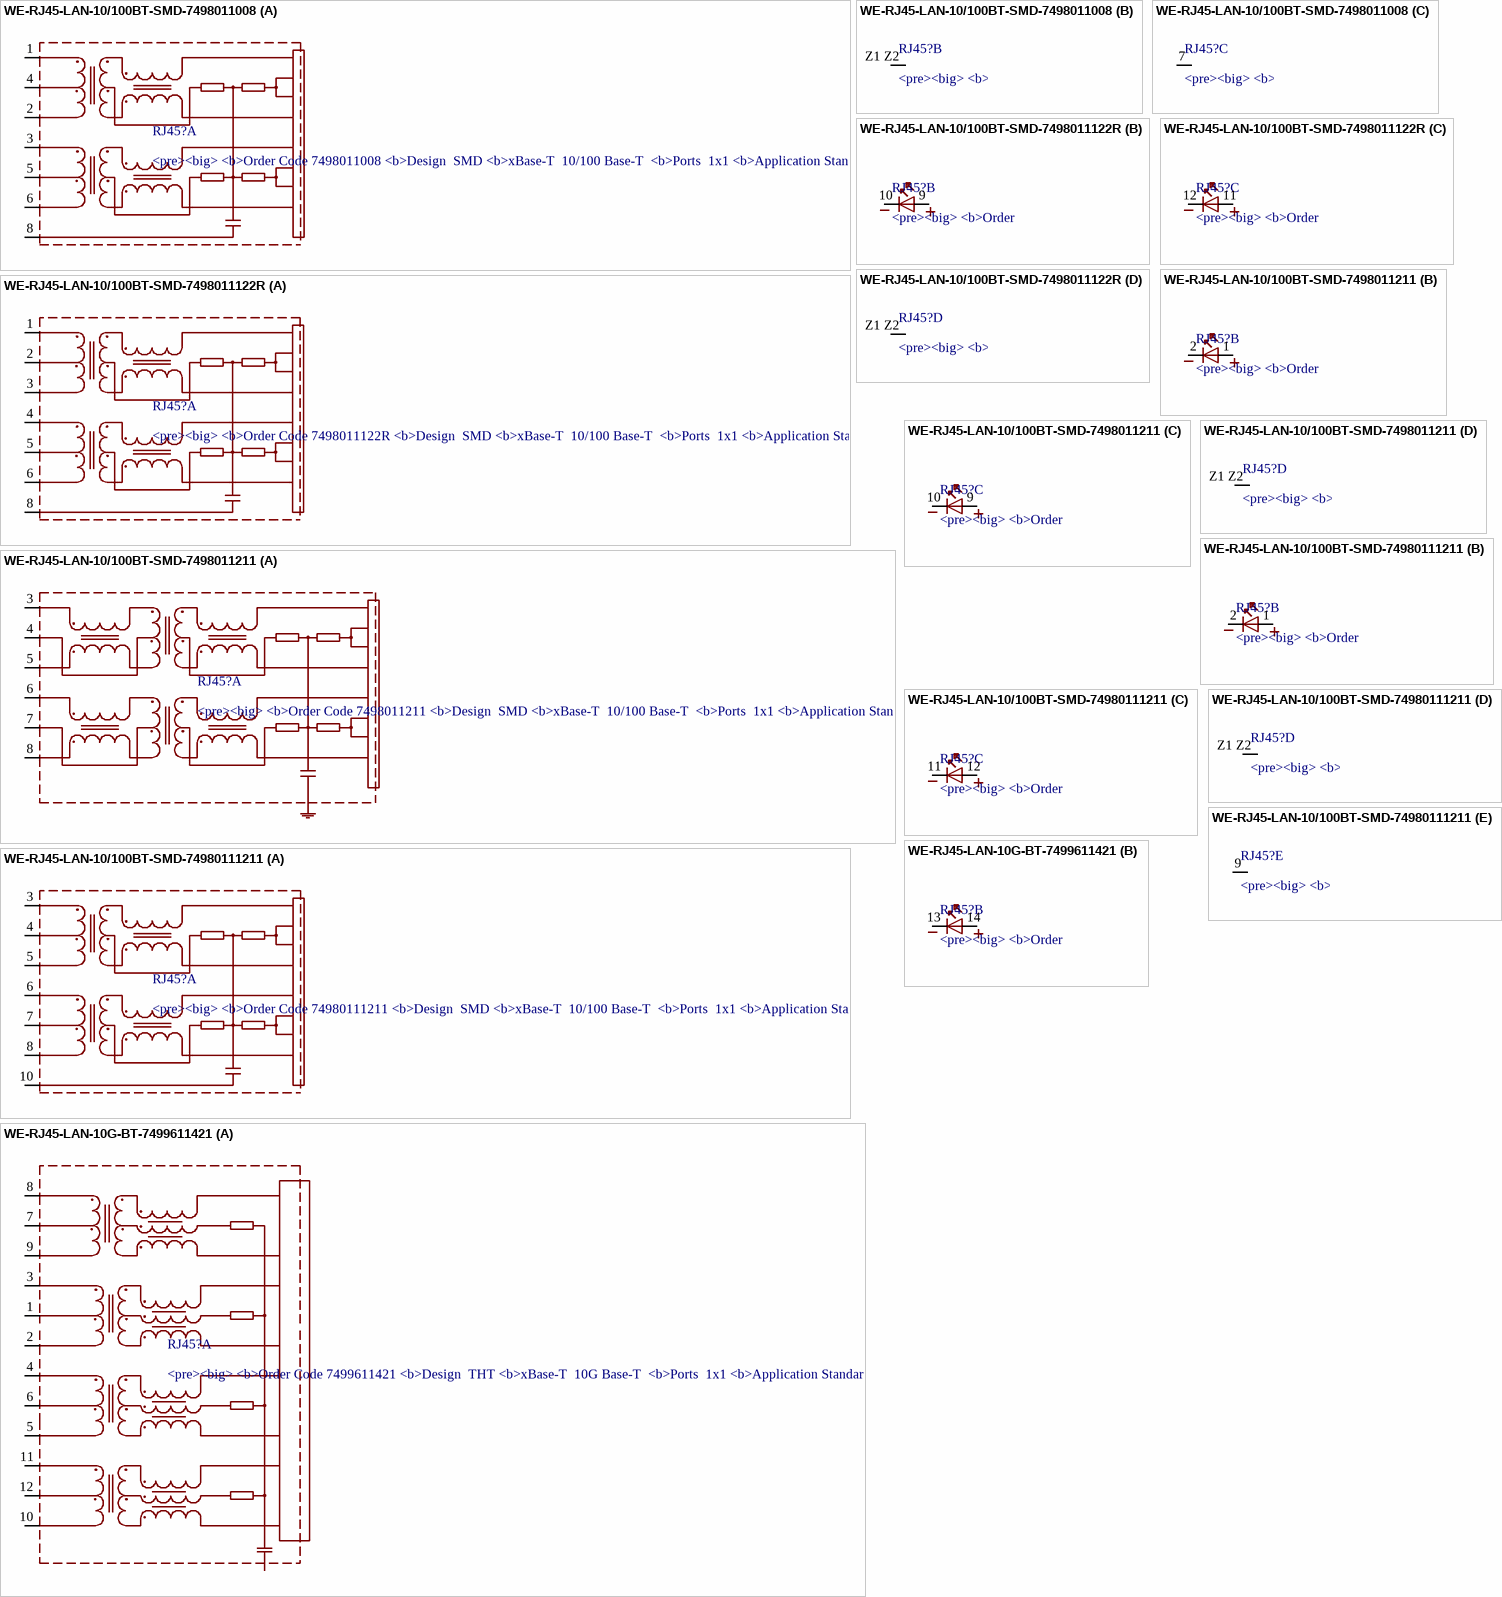
[diagram p39: symbols WE-RJ45-LAN-10/100BT-SMD-7498011008 to WE-RJ45-LAN-10G-BT-7499611421]